# Altium integrated library Altera MAX II.IntLib: 229 symbols (part 1 of 19)
Pins are listed as number, name and electrical type; pins without a type are passive.

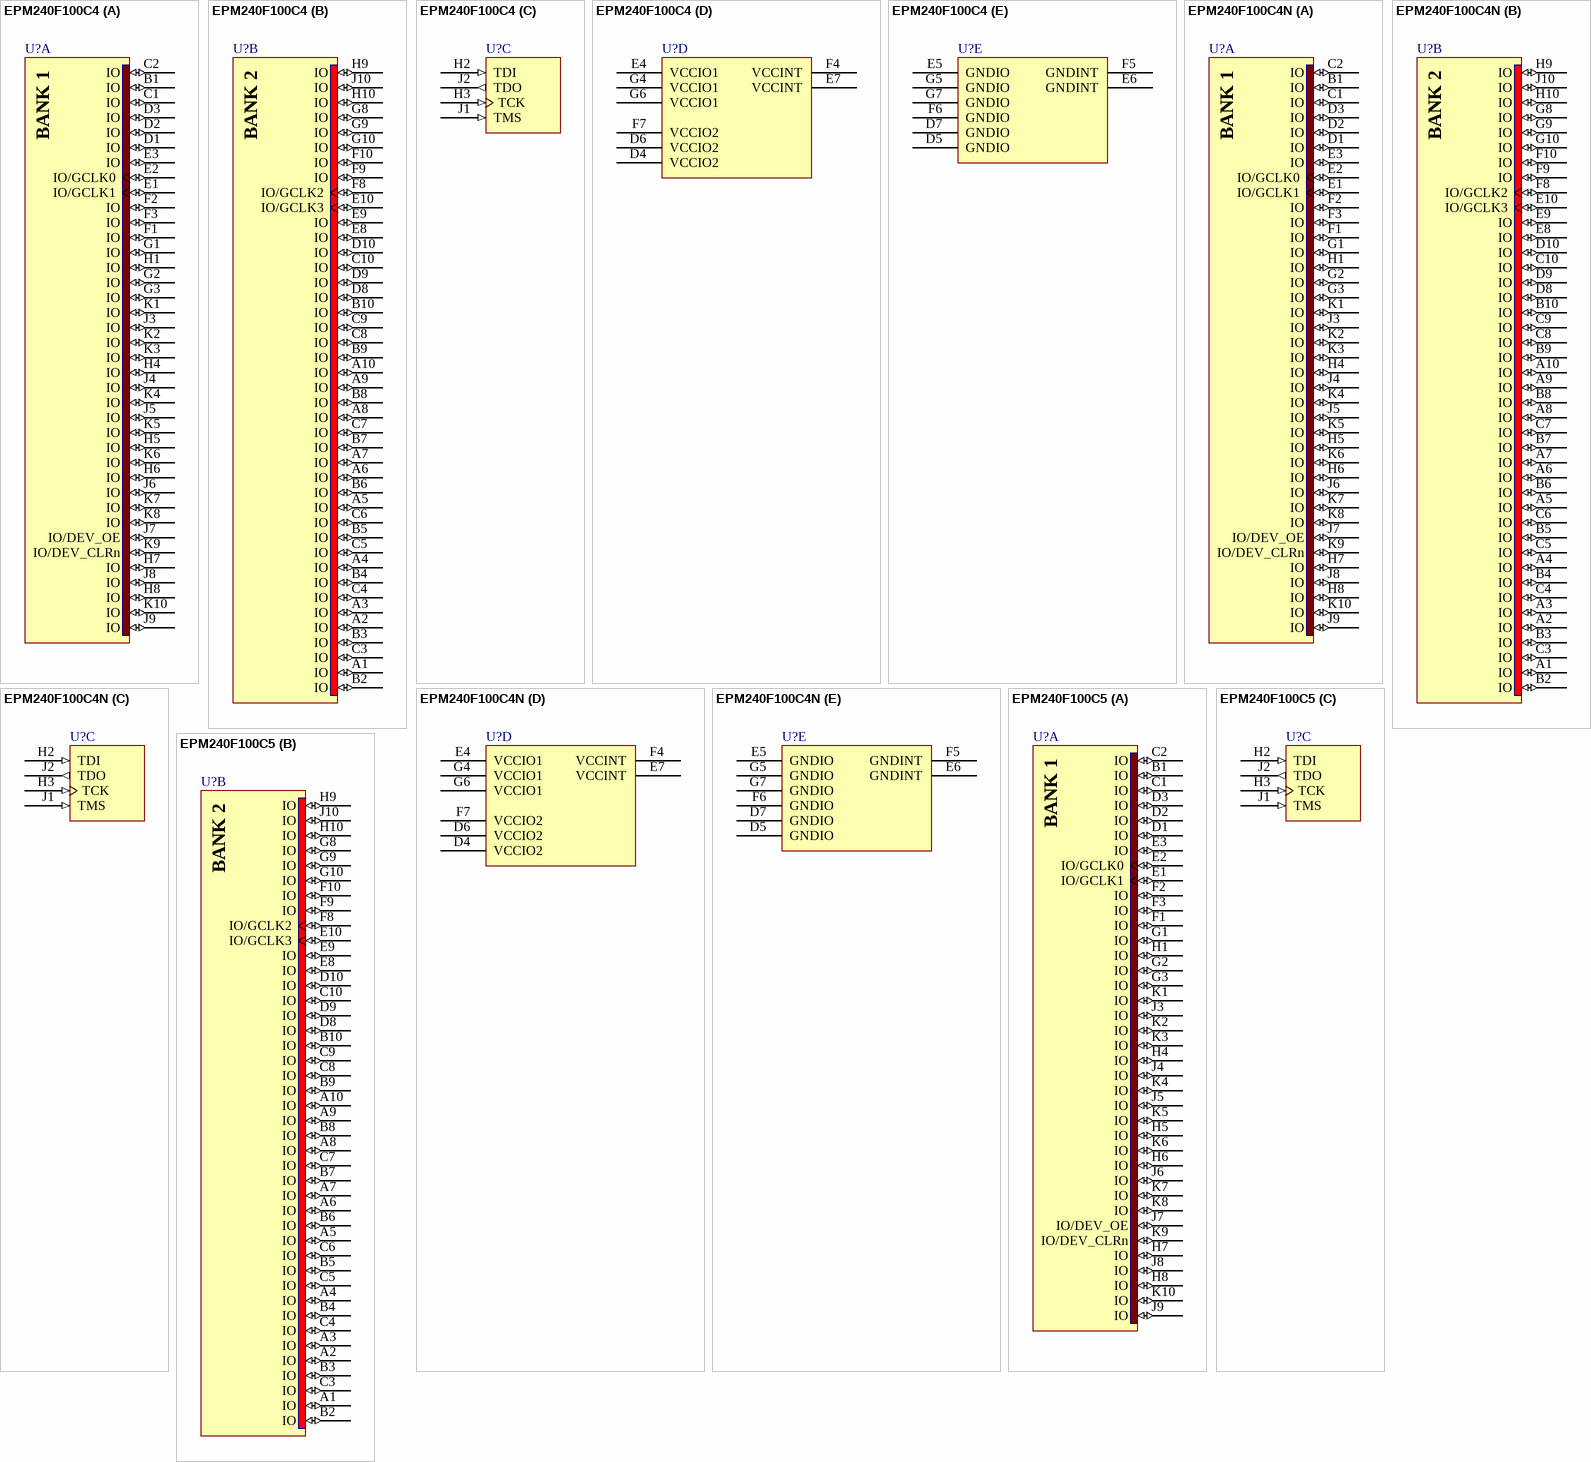
[diagram p0: symbols EPM240F100C4 to EPM240F100C5]

## EPM240F100C4
designator U?
MAX II 3.3/2.5V CPLD, 80 IOs, 240 Logic Elements, 100-Pin Fineline BGA, Commercial Temperature, Speed Grade 4; Note: Each set of VCCIO pins can be connected to 3.3V, 2.5V, 1.8V, or 1.5V.; Note: All VCCINT pins must be connected to either 3.3V or 2.5V (but not a combination of both).; Published: 31-Jul-2006; DatasheetVersion: ver1.8, Jul-2006; PackageVersion: ver15.1, May-2008; PackageReference: FBGA100_2; Publisher: Altium Limited; PackageDescription: 100-Ball FineLine Ball Grid Array (FBGA100) - Option 2 - Wire Bond; Code_JEDEC: MO-192-DAC-1; ComponentLink1Description: Manufacturer Link; ComponentLink1URL: http://www.altera.com/products/devices/cpld/max2/mx2-index.jsp; ComponentLink2Description: Handbook; ComponentLink2URL: http://www.altera.com/literature/hb/max2/max2_mii5v1.pdf; ComponentLink3Description: Packaging Specification; ComponentLink3URL: http://www.altera.com/literature/ds/dspkg.pdf
footprint FBGA100_2 (BGA, 100-Leads, Body 11x11mm, Pitch 1mm)
3D model EPM240-FBGA100 (100-Ball FineLine Ball Grid Array (FBGA100) - Option 2 - Wire Bond)
part A pins: B1 IO (io), C1 IO (io), C2 IO (io), D1 IO (io), D2 IO (io), D3 IO (io), E1 IO/GCLK1 (io), E2 IO/GCLK0 (io), E3 IO (io), F1 IO (io), F2 IO (io), F3 IO (io), G1 IO (io), G2 IO (io), G3 IO (io), H1 IO (io), H4 IO (io), H5 IO (io), H6 IO (io), H7 IO (io), H8 IO (io), J3 IO (io), J4 IO (io), J5 IO (io), J6 IO (io), J7 IO/DEV_OE (io), J8 IO (io), J9 IO (io), K1 IO (io), K2 IO (io), K3 IO (io), K4 IO (io), K5 IO (io), K6 IO (io), K7 IO (io), K8 IO (io), K9 IO/DEV_CLRn (io), K10 IO (io)
part B pins: A1 IO (io), A2 IO (io), A3 IO (io), A4 IO (io), A5 IO (io), A6 IO (io), A7 IO (io), A8 IO (io), A9 IO (io), A10 IO (io), B2 IO (io), B3 IO (io), B4 IO (io), B5 IO (io), B6 IO (io), B7 IO (io), B8 IO (io), B9 IO (io), B10 IO (io), C3 IO (io), C4 IO (io), C5 IO (io), C6 IO (io), C7 IO (io), C8 IO (io), C9 IO (io), C10 IO (io), D8 IO (io), D9 IO (io), D10 IO (io), E8 IO (io), E9 IO (io), E10 IO/GCLK3 (io), F8 IO/GCLK2 (io), F9 IO (io), F10 IO (io), G8 IO (io), G9 IO (io), G10 IO (io), H9 IO (io), H10 IO (io), J10 IO (io)
part C pins: H2 TDI (in), H3 TCK (in), J1 TMS (in), J2 TDO (out)
part D pins: D4 VCCIO2 (power), D6 VCCIO2 (power), E4 VCCIO1 (power), E7 VCCINT (power), F4 VCCINT (power), F7 VCCIO2 (power), G4 VCCIO1 (power), G6 VCCIO1 (power)
part E pins: D5 GNDIO (power), D7 GNDIO (power), E5 GNDIO (power), E6 GNDINT (power), F5 GNDINT (power), F6 GNDIO (power), G5 GNDIO (power), G7 GNDIO (power)
part A text: BANK 1
part B text: BANK 2

## EPM240F100C4N
designator U?
MAX II 3.3/2.5V CPLD, 80 IOs, 240 Logic Elements, 100-Pin Fineline BGA, Commercial Temperature, Speed Grade 4, Pb-Free; Note: Each set of VCCIO pins can be connected to 3.3V, 2.5V, 1.8V, or 1.5V.; Note: All VCCINT pins must be connected to either 3.3V or 2.5V (but not a combination of both).; Published: 31-Jul-2006; DatasheetVersion: ver1.8, Jul-2006; PackageVersion: ver15.1, May-2008; PackageReference: FBGA100_2; Publisher: Altium Limited; PackageDescription: 100-Ball FineLine Ball Grid Array (FBGA100) - Option 2 - Wire Bond; Supplier 1: Digi-Key; Supplier Part Number 1: 544-1710-ND; Code_JEDEC: MO-192-DAC-1; ComponentLink1Description: Manufacturer Link; ComponentLink1URL: http://www.altera.com/products/devices/cpld/max2/mx2-index.jsp; ComponentLink2Description: Handbook; ComponentLink2URL: http://www.altera.com/literature/hb/max2/max2_mii5v1.pdf; ComponentLink3Description: Packaging Specification; ComponentLink3URL: http://www.altera.com/literature/ds/dspkg.pdf
footprint FBGA100_2 (BGA, 100-Leads, Body 11x11mm, Pitch 1mm)
3D model EPM240-FBGA100 (100-Ball FineLine Ball Grid Array (FBGA100) - Option 2 - Wire Bond)
part A pins: B1 IO (io), C1 IO (io), C2 IO (io), D1 IO (io), D2 IO (io), D3 IO (io), E1 IO/GCLK1 (io), E2 IO/GCLK0 (io), E3 IO (io), F1 IO (io), F2 IO (io), F3 IO (io), G1 IO (io), G2 IO (io), G3 IO (io), H1 IO (io), H4 IO (io), H5 IO (io), H6 IO (io), H7 IO (io), H8 IO (io), J3 IO (io), J4 IO (io), J5 IO (io), J6 IO (io), J7 IO/DEV_OE (io), J8 IO (io), J9 IO (io), K1 IO (io), K2 IO (io), K3 IO (io), K4 IO (io), K5 IO (io), K6 IO (io), K7 IO (io), K8 IO (io), K9 IO/DEV_CLRn (io), K10 IO (io)
part B pins: A1 IO (io), A2 IO (io), A3 IO (io), A4 IO (io), A5 IO (io), A6 IO (io), A7 IO (io), A8 IO (io), A9 IO (io), A10 IO (io), B2 IO (io), B3 IO (io), B4 IO (io), B5 IO (io), B6 IO (io), B7 IO (io), B8 IO (io), B9 IO (io), B10 IO (io), C3 IO (io), C4 IO (io), C5 IO (io), C6 IO (io), C7 IO (io), C8 IO (io), C9 IO (io), C10 IO (io), D8 IO (io), D9 IO (io), D10 IO (io), E8 IO (io), E9 IO (io), E10 IO/GCLK3 (io), F8 IO/GCLK2 (io), F9 IO (io), F10 IO (io), G8 IO (io), G9 IO (io), G10 IO (io), H9 IO (io), H10 IO (io), J10 IO (io)
part C pins: H2 TDI (in), H3 TCK (in), J1 TMS (in), J2 TDO (out)
part D pins: D4 VCCIO2 (power), D6 VCCIO2 (power), E4 VCCIO1 (power), E7 VCCINT (power), F4 VCCINT (power), F7 VCCIO2 (power), G4 VCCIO1 (power), G6 VCCIO1 (power)
part E pins: D5 GNDIO (power), D7 GNDIO (power), E5 GNDIO (power), E6 GNDINT (power), F5 GNDINT (power), F6 GNDIO (power), G5 GNDIO (power), G7 GNDIO (power)
part A text: BANK 1
part B text: BANK 2

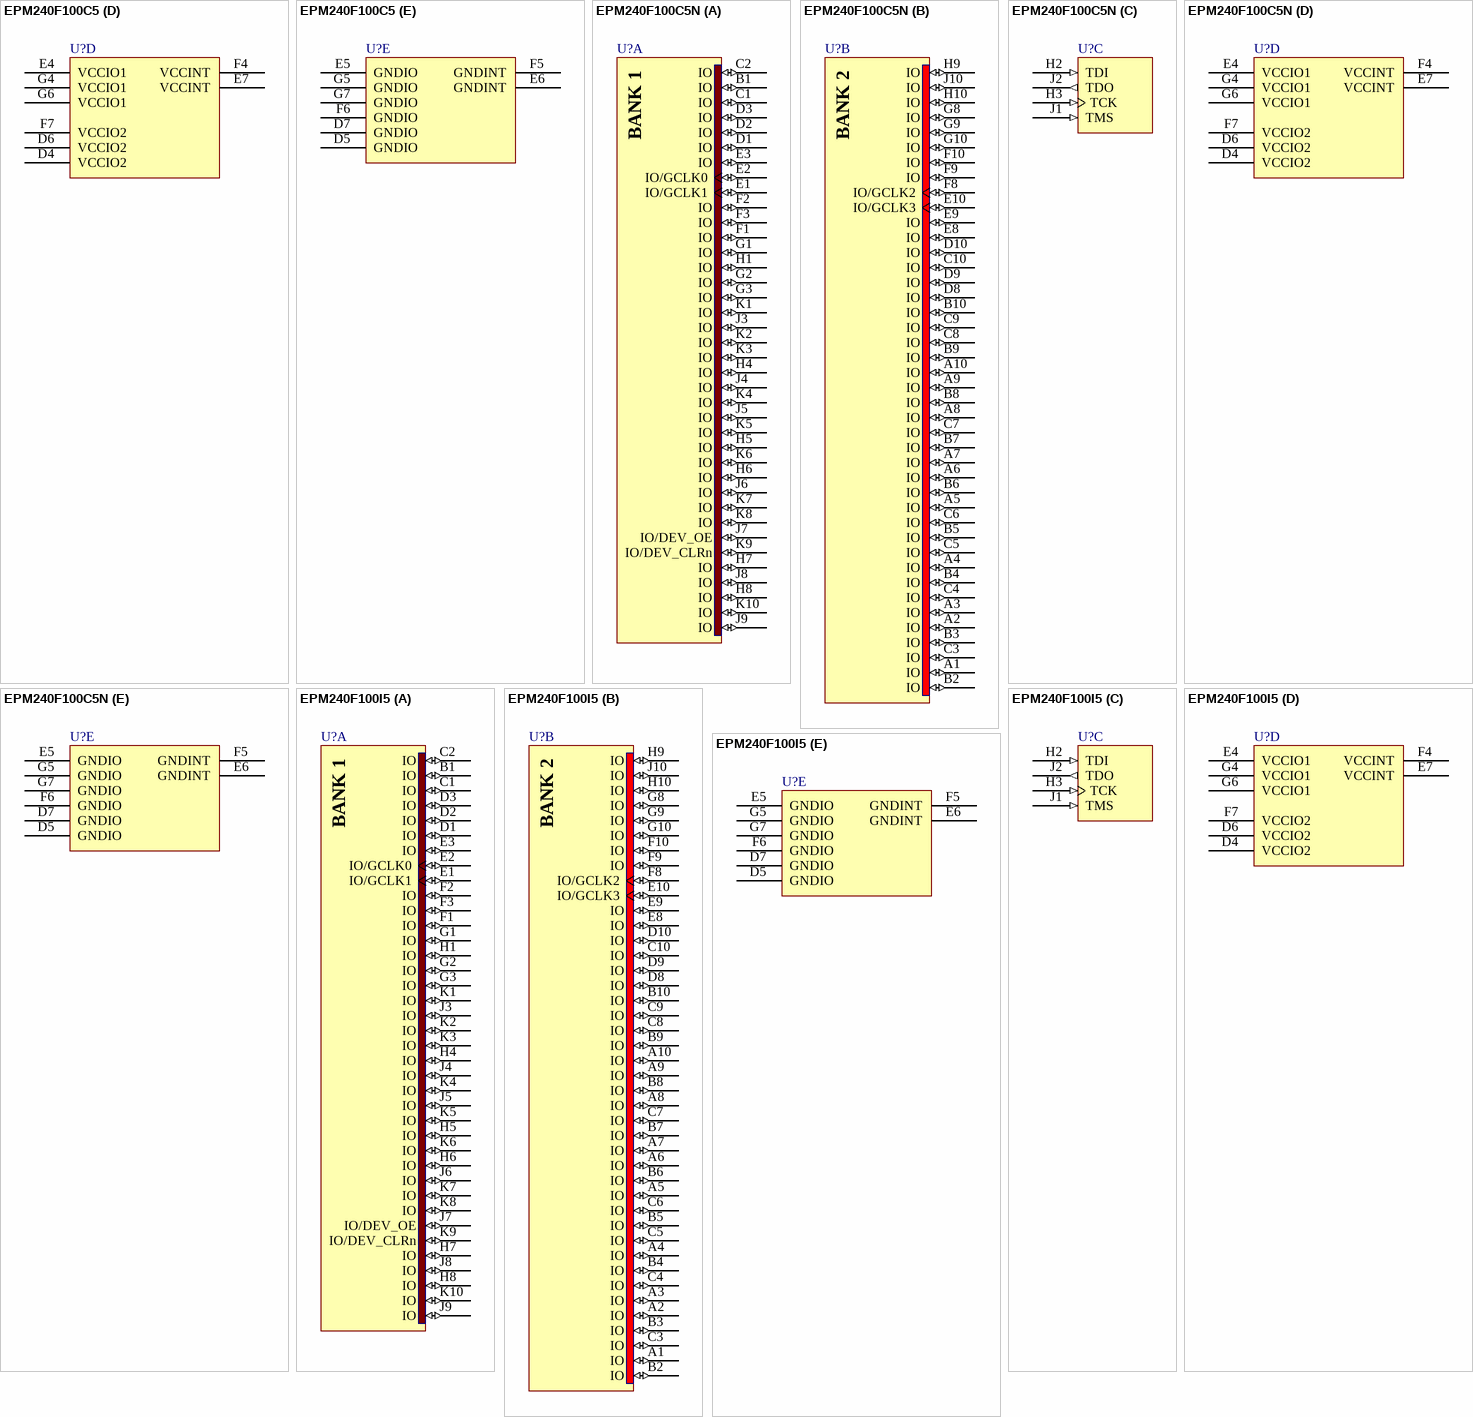
[diagram p1: symbols EPM240F100C5 to EPM240F100I5]

## EPM240F100C5
designator U?
MAX II 3.3/2.5V CPLD, 80 IOs, 240 Logic Elements, 100-Pin Fineline BGA, Commercial Temperature, Speed Grade 5; Note: Each set of VCCIO pins can be connected to 3.3V, 2.5V, 1.8V, or 1.5V.; Note: All VCCINT pins must be connected to either 3.3V or 2.5V (but not a combination of both).; Published: 31-Jul-2006; DatasheetVersion: ver1.8, Jul-2006; PackageVersion: ver15.1, May-2008; PackageReference: FBGA100_2; Publisher: Altium Limited; PackageDescription: 100-Ball FineLine Ball Grid Array (FBGA100) - Option 2 - Wire Bond; Code_JEDEC: MO-192-DAC-1; ComponentLink1Description: Manufacturer Link; ComponentLink1URL: http://www.altera.com/products/devices/cpld/max2/mx2-index.jsp; ComponentLink2Description: Handbook; ComponentLink2URL: http://www.altera.com/literature/hb/max2/max2_mii5v1.pdf; ComponentLink3Description: Packaging Specification; ComponentLink3URL: http://www.altera.com/literature/ds/dspkg.pdf
footprint FBGA100_2 (BGA, 100-Leads, Body 11x11mm, Pitch 1mm)
3D model EPM240-FBGA100 (100-Ball FineLine Ball Grid Array (FBGA100) - Option 2 - Wire Bond)
part A pins: B1 IO (io), C1 IO (io), C2 IO (io), D1 IO (io), D2 IO (io), D3 IO (io), E1 IO/GCLK1 (io), E2 IO/GCLK0 (io), E3 IO (io), F1 IO (io), F2 IO (io), F3 IO (io), G1 IO (io), G2 IO (io), G3 IO (io), H1 IO (io), H4 IO (io), H5 IO (io), H6 IO (io), H7 IO (io), H8 IO (io), J3 IO (io), J4 IO (io), J5 IO (io), J6 IO (io), J7 IO/DEV_OE (io), J8 IO (io), J9 IO (io), K1 IO (io), K2 IO (io), K3 IO (io), K4 IO (io), K5 IO (io), K6 IO (io), K7 IO (io), K8 IO (io), K9 IO/DEV_CLRn (io), K10 IO (io)
part B pins: A1 IO (io), A2 IO (io), A3 IO (io), A4 IO (io), A5 IO (io), A6 IO (io), A7 IO (io), A8 IO (io), A9 IO (io), A10 IO (io), B2 IO (io), B3 IO (io), B4 IO (io), B5 IO (io), B6 IO (io), B7 IO (io), B8 IO (io), B9 IO (io), B10 IO (io), C3 IO (io), C4 IO (io), C5 IO (io), C6 IO (io), C7 IO (io), C8 IO (io), C9 IO (io), C10 IO (io), D8 IO (io), D9 IO (io), D10 IO (io), E8 IO (io), E9 IO (io), E10 IO/GCLK3 (io), F8 IO/GCLK2 (io), F9 IO (io), F10 IO (io), G8 IO (io), G9 IO (io), G10 IO (io), H9 IO (io), H10 IO (io), J10 IO (io)
part C pins: H2 TDI (in), H3 TCK (in), J1 TMS (in), J2 TDO (out)
part D pins: D4 VCCIO2 (power), D6 VCCIO2 (power), E4 VCCIO1 (power), E7 VCCINT (power), F4 VCCINT (power), F7 VCCIO2 (power), G4 VCCIO1 (power), G6 VCCIO1 (power)
part E pins: D5 GNDIO (power), D7 GNDIO (power), E5 GNDIO (power), E6 GNDINT (power), F5 GNDINT (power), F6 GNDIO (power), G5 GNDIO (power), G7 GNDIO (power)
part A text: BANK 1
part B text: BANK 2

## EPM240F100C5N
designator U?
MAX II 3.3/2.5V CPLD, 80 IOs, 240 Logic Elements, 100-Pin Fineline BGA, Commercial Temperature, Speed Grade 5, Pb-Free; Note: Each set of VCCIO pins can be connected to 3.3V, 2.5V, 1.8V, or 1.5V.; Note: All VCCINT pins must be connected to either 3.3V or 2.5V (but not a combination of both).; Published: 31-Jul-2006; DatasheetVersion: ver1.8, Jul-2006; PackageVersion: ver15.1, May-2008; PackageReference: FBGA100_2; Publisher: Altium Limited; PackageDescription: 100-Ball FineLine Ball Grid Array (FBGA100) - Option 2 - Wire Bond; Supplier 1: Digi-Key; Supplier Part Number 1: 544-1709-ND; Supplier 2: Farnell; Supplier Part Number 2: 1635094; Code_JEDEC: MO-192-DAC-1; ComponentLink1Description: Manufacturer Link; ComponentLink1URL: http://www.altera.com/products/devices/cpld/max2/mx2-index.jsp; ComponentLink2Description: Handbook; ComponentLink2URL: http://www.altera.com/literature/hb/max2/max2_mii5v1.pdf; ComponentLink3Description: Packaging Specification; ComponentLink3URL: http://www.altera.com/literature/ds/dspkg.pdf
footprint FBGA100_2 (BGA, 100-Leads, Body 11x11mm, Pitch 1mm)
3D model EPM240-FBGA100 (100-Ball FineLine Ball Grid Array (FBGA100) - Option 2 - Wire Bond)
part A pins: B1 IO (io), C1 IO (io), C2 IO (io), D1 IO (io), D2 IO (io), D3 IO (io), E1 IO/GCLK1 (io), E2 IO/GCLK0 (io), E3 IO (io), F1 IO (io), F2 IO (io), F3 IO (io), G1 IO (io), G2 IO (io), G3 IO (io), H1 IO (io), H4 IO (io), H5 IO (io), H6 IO (io), H7 IO (io), H8 IO (io), J3 IO (io), J4 IO (io), J5 IO (io), J6 IO (io), J7 IO/DEV_OE (io), J8 IO (io), J9 IO (io), K1 IO (io), K2 IO (io), K3 IO (io), K4 IO (io), K5 IO (io), K6 IO (io), K7 IO (io), K8 IO (io), K9 IO/DEV_CLRn (io), K10 IO (io)
part B pins: A1 IO (io), A2 IO (io), A3 IO (io), A4 IO (io), A5 IO (io), A6 IO (io), A7 IO (io), A8 IO (io), A9 IO (io), A10 IO (io), B2 IO (io), B3 IO (io), B4 IO (io), B5 IO (io), B6 IO (io), B7 IO (io), B8 IO (io), B9 IO (io), B10 IO (io), C3 IO (io), C4 IO (io), C5 IO (io), C6 IO (io), C7 IO (io), C8 IO (io), C9 IO (io), C10 IO (io), D8 IO (io), D9 IO (io), D10 IO (io), E8 IO (io), E9 IO (io), E10 IO/GCLK3 (io), F8 IO/GCLK2 (io), F9 IO (io), F10 IO (io), G8 IO (io), G9 IO (io), G10 IO (io), H9 IO (io), H10 IO (io), J10 IO (io)
part C pins: H2 TDI (in), H3 TCK (in), J1 TMS (in), J2 TDO (out)
part D pins: D4 VCCIO2 (power), D6 VCCIO2 (power), E4 VCCIO1 (power), E7 VCCINT (power), F4 VCCINT (power), F7 VCCIO2 (power), G4 VCCIO1 (power), G6 VCCIO1 (power)
part E pins: D5 GNDIO (power), D7 GNDIO (power), E5 GNDIO (power), E6 GNDINT (power), F5 GNDINT (power), F6 GNDIO (power), G5 GNDIO (power), G7 GNDIO (power)
part A text: BANK 1
part B text: BANK 2

## EPM240F100I5
designator U?
MAX II 3.3/2.5V CPLD, 80 IOs, 240 Logic Elements, 100-Pin Fineline BGA, Industrial Temperature, Speed Grade 5; Note: Each set of VCCIO pins can be connected to 3.3V, 2.5V, 1.8V, or 1.5V.; Note: All VCCINT pins must be connected to either 3.3V or 2.5V (but not a combination of both).; Published: 31-Jul-2006; DatasheetVersion: ver1.8, Jul-2006; PackageVersion: ver15.1, May-2008; PackageReference: FBGA100_2; Publisher: Altium Limited; PackageDescription: 100-Ball FineLine Ball Grid Array (FBGA100) - Option 2 - Wire Bond; Code_JEDEC: MO-192-DAC-1; ComponentLink1Description: Manufacturer Link; ComponentLink1URL: http://www.altera.com/products/devices/cpld/max2/mx2-index.jsp; ComponentLink2Description: Handbook; ComponentLink2URL: http://www.altera.com/literature/hb/max2/max2_mii5v1.pdf; ComponentLink3Description: Packaging Specification; ComponentLink3URL: http://www.altera.com/literature/ds/dspkg.pdf
footprint FBGA100_2 (BGA, 100-Leads, Body 11x11mm, Pitch 1mm)
3D model EPM240-FBGA100 (100-Ball FineLine Ball Grid Array (FBGA100) - Option 2 - Wire Bond)
part A pins: B1 IO (io), C1 IO (io), C2 IO (io), D1 IO (io), D2 IO (io), D3 IO (io), E1 IO/GCLK1 (io), E2 IO/GCLK0 (io), E3 IO (io), F1 IO (io), F2 IO (io), F3 IO (io), G1 IO (io), G2 IO (io), G3 IO (io), H1 IO (io), H4 IO (io), H5 IO (io), H6 IO (io), H7 IO (io), H8 IO (io), J3 IO (io), J4 IO (io), J5 IO (io), J6 IO (io), J7 IO/DEV_OE (io), J8 IO (io), J9 IO (io), K1 IO (io), K2 IO (io), K3 IO (io), K4 IO (io), K5 IO (io), K6 IO (io), K7 IO (io), K8 IO (io), K9 IO/DEV_CLRn (io), K10 IO (io)
part B pins: A1 IO (io), A2 IO (io), A3 IO (io), A4 IO (io), A5 IO (io), A6 IO (io), A7 IO (io), A8 IO (io), A9 IO (io), A10 IO (io), B2 IO (io), B3 IO (io), B4 IO (io), B5 IO (io), B6 IO (io), B7 IO (io), B8 IO (io), B9 IO (io), B10 IO (io), C3 IO (io), C4 IO (io), C5 IO (io), C6 IO (io), C7 IO (io), C8 IO (io), C9 IO (io), C10 IO (io), D8 IO (io), D9 IO (io), D10 IO (io), E8 IO (io), E9 IO (io), E10 IO/GCLK3 (io), F8 IO/GCLK2 (io), F9 IO (io), F10 IO (io), G8 IO (io), G9 IO (io), G10 IO (io), H9 IO (io), H10 IO (io), J10 IO (io)
part C pins: H2 TDI (in), H3 TCK (in), J1 TMS (in), J2 TDO (out)
part D pins: D4 VCCIO2 (power), D6 VCCIO2 (power), E4 VCCIO1 (power), E7 VCCINT (power), F4 VCCINT (power), F7 VCCIO2 (power), G4 VCCIO1 (power), G6 VCCIO1 (power)
part E pins: D5 GNDIO (power), D7 GNDIO (power), E5 GNDIO (power), E6 GNDINT (power), F5 GNDINT (power), F6 GNDIO (power), G5 GNDIO (power), G7 GNDIO (power)
part A text: BANK 1
part B text: BANK 2

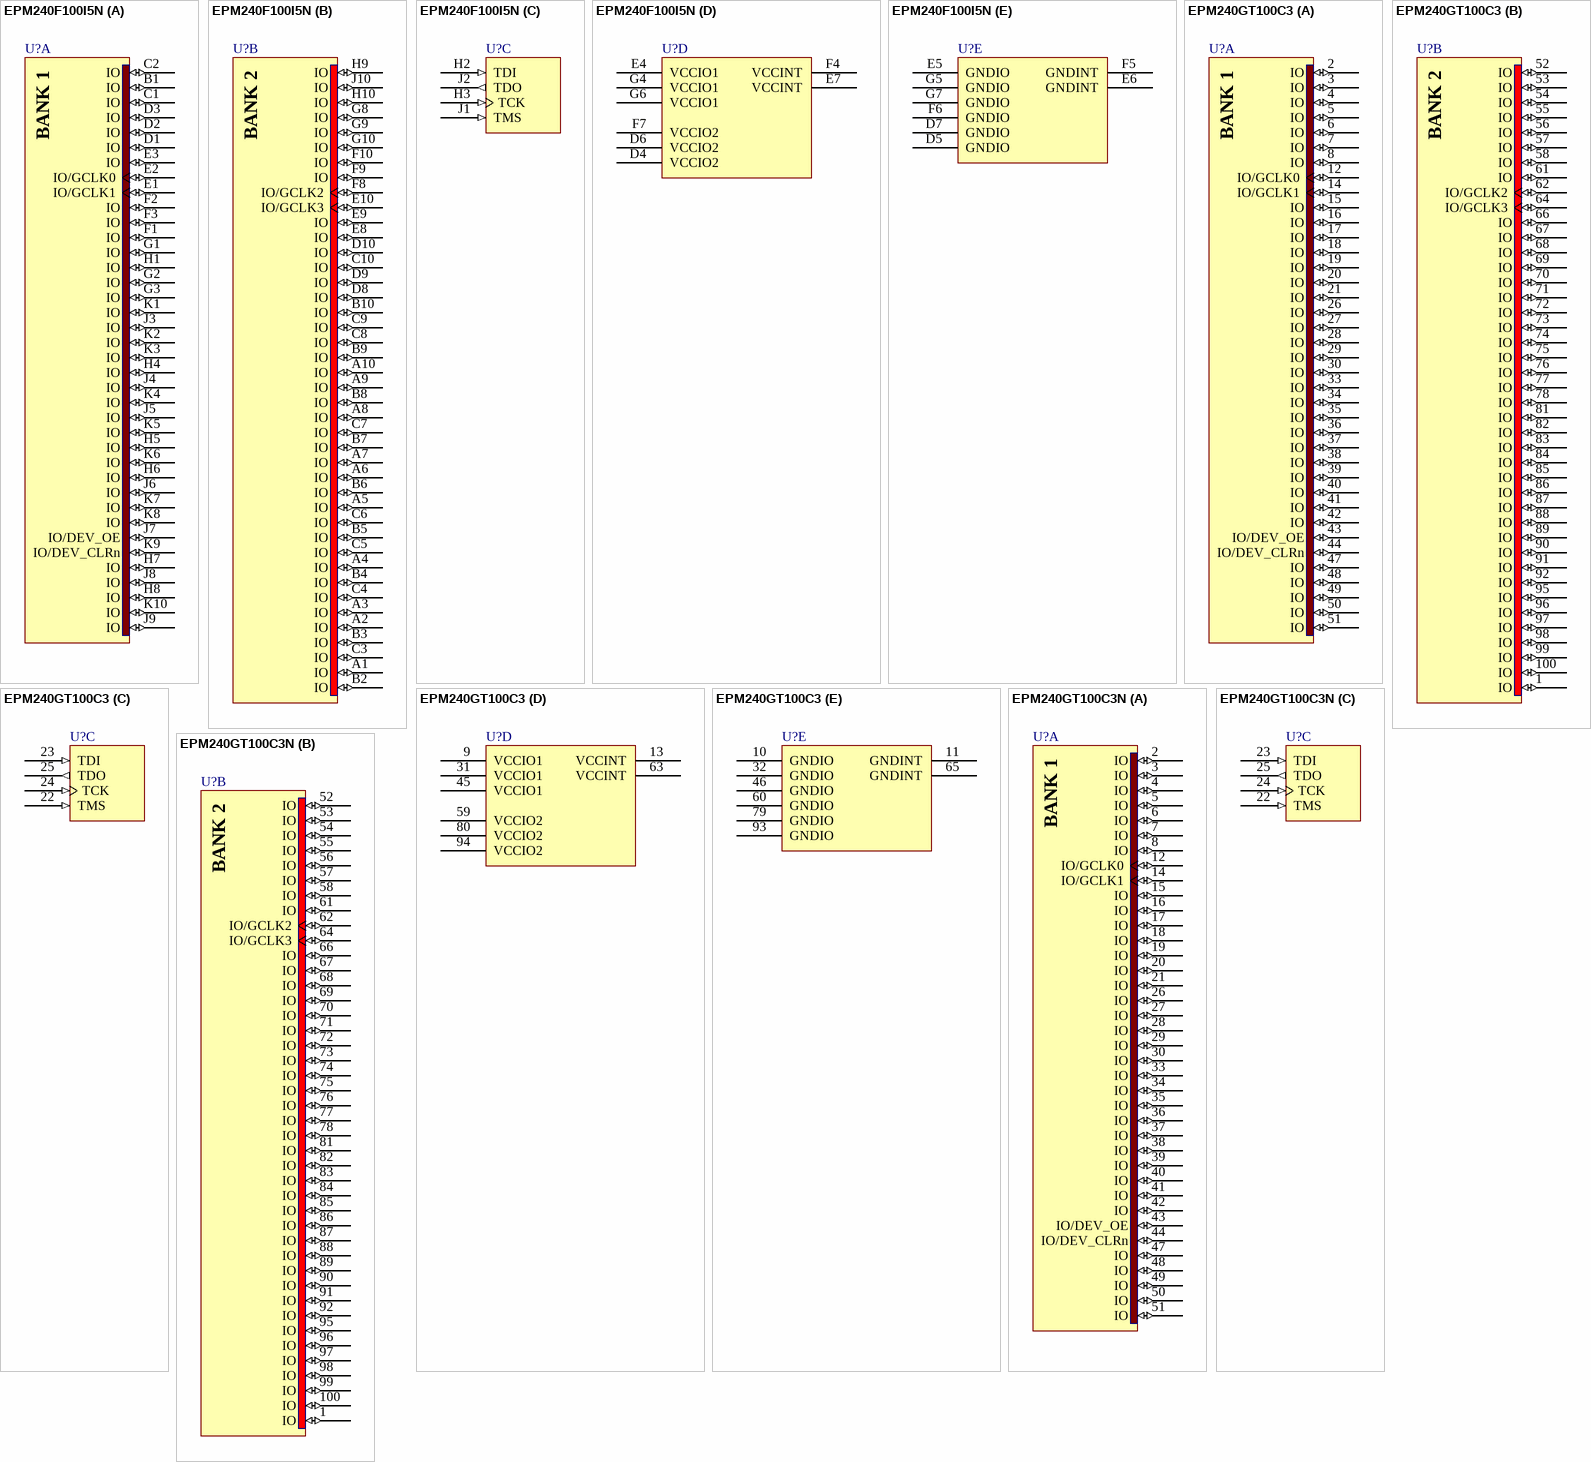
[diagram p2: symbols EPM240F100I5N to EPM240GT100C3N]

## EPM240F100I5N
designator U?
MAX II 3.3/2.5V CPLD, 80 IOs, 240 Logic Elements, 100-Pin Fineline BGA, Industrial Temperature, Speed Grade 5, Pb-Free; Note: Each set of VCCIO pins can be connected to 3.3V, 2.5V, 1.8V, or 1.5V.; Note: All VCCINT pins must be connected to either 3.3V or 2.5V (but not a combination of both).; Published: 31-Jul-2006; DatasheetVersion: ver1.8, Jul-2006; PackageVersion: ver15.1, May-2008; PackageReference: FBGA100_2; Publisher: Altium Limited; PackageDescription: 100-Ball FineLine Ball Grid Array (FBGA100) - Option 2 - Wire Bond; Supplier 1: Digi-Key; Supplier Part Number 1: 544-1711-ND; Code_JEDEC: MO-192-DAC-1; ComponentLink1Description: Manufacturer Link; ComponentLink1URL: http://www.altera.com/products/devices/cpld/max2/mx2-index.jsp; ComponentLink2Description: Handbook; ComponentLink2URL: http://www.altera.com/literature/hb/max2/max2_mii5v1.pdf; ComponentLink3Description: Packaging Specification; ComponentLink3URL: http://www.altera.com/literature/ds/dspkg.pdf
footprint FBGA100_2 (BGA, 100-Leads, Body 11x11mm, Pitch 1mm)
3D model EPM240-FBGA100 (100-Ball FineLine Ball Grid Array (FBGA100) - Option 2 - Wire Bond)
part A pins: B1 IO (io), C1 IO (io), C2 IO (io), D1 IO (io), D2 IO (io), D3 IO (io), E1 IO/GCLK1 (io), E2 IO/GCLK0 (io), E3 IO (io), F1 IO (io), F2 IO (io), F3 IO (io), G1 IO (io), G2 IO (io), G3 IO (io), H1 IO (io), H4 IO (io), H5 IO (io), H6 IO (io), H7 IO (io), H8 IO (io), J3 IO (io), J4 IO (io), J5 IO (io), J6 IO (io), J7 IO/DEV_OE (io), J8 IO (io), J9 IO (io), K1 IO (io), K2 IO (io), K3 IO (io), K4 IO (io), K5 IO (io), K6 IO (io), K7 IO (io), K8 IO (io), K9 IO/DEV_CLRn (io), K10 IO (io)
part B pins: A1 IO (io), A2 IO (io), A3 IO (io), A4 IO (io), A5 IO (io), A6 IO (io), A7 IO (io), A8 IO (io), A9 IO (io), A10 IO (io), B2 IO (io), B3 IO (io), B4 IO (io), B5 IO (io), B6 IO (io), B7 IO (io), B8 IO (io), B9 IO (io), B10 IO (io), C3 IO (io), C4 IO (io), C5 IO (io), C6 IO (io), C7 IO (io), C8 IO (io), C9 IO (io), C10 IO (io), D8 IO (io), D9 IO (io), D10 IO (io), E8 IO (io), E9 IO (io), E10 IO/GCLK3 (io), F8 IO/GCLK2 (io), F9 IO (io), F10 IO (io), G8 IO (io), G9 IO (io), G10 IO (io), H9 IO (io), H10 IO (io), J10 IO (io)
part C pins: H2 TDI (in), H3 TCK (in), J1 TMS (in), J2 TDO (out)
part D pins: D4 VCCIO2 (power), D6 VCCIO2 (power), E4 VCCIO1 (power), E7 VCCINT (power), F4 VCCINT (power), F7 VCCIO2 (power), G4 VCCIO1 (power), G6 VCCIO1 (power)
part E pins: D5 GNDIO (power), D7 GNDIO (power), E5 GNDIO (power), E6 GNDINT (power), F5 GNDINT (power), F6 GNDIO (power), G5 GNDIO (power), G7 GNDIO (power)
part A text: BANK 1
part B text: BANK 2

## EPM240GT100C3
designator U?
MAX II 1.8V CPLD, 80 IOs, 240 Logic Elements, 100-Pin Plastic TQFP, Commercial Temperature, Speed Grade 3; Note: Each set of VCCIO pins can be connected to 3.3V, 2.5V, 1.8V, or 1.5V.; Note: All VCCINT pins must be connected to 1.8V.; Published: 15-Jul-2004; LatestRevisionDate: 13-Apr-2006; LatestRevisionNote: IPC-7351 Footprint Added.; DatasheetVersion: ver1.8, Jul-2006; PackageVersion: ver15.1, May-2008; PackageReference: TQFP100; Publisher: Altium Limited; PackageDescription: 100-Pin Plastic Thin Quad Flat Pack (TQFP100) - Wire Bond; Supplier 1: Digi-Key; Supplier Part Number 1: 544-1147-ND; Code_JEDEC: MS-026-AED; ComponentLink1Description: Manufacturer Link; ComponentLink1URL: http://www.altera.com/products/devices/cpld/max2/mx2-index.jsp; ComponentLink2Description: Handbook; ComponentLink2URL: http://www.altera.com/literature/hb/max2/max2_mii5v1.pdf; ComponentLink3Description: Packaging Specification; ComponentLink3URL: http://www.altera.com/literature/ds/dspkg.pdf
footprint TQFP100_N (Thin QFP, 100-Leads, Body 14x14mm, Pitch 0.5mm, IPC Medium Density)
footprint TQFP100_L (Thin QFP, 100-Leads, Body 14x14mm, Pitch 0.5mm, IPC High Density)
footprint TQFP100_M (Thin QFP, 100-Leads, Body 14x14mm, Pitch 0.5mm, IPC Low Density)
3D model EPM240-TQFP100 (100-Pin Plastic Thin Quad Flat Pack (TQFP100) - Wire Bond)
part A pins: 2 IO (io), 3 IO (io), 4 IO (io), 5 IO (io), 6 IO (io), 7 IO (io), 8 IO (io), 12 IO/GCLK0 (io), 14 IO/GCLK1 (io), 15 IO (io), 16 IO (io), 17 IO (io), 18 IO (io), 19 IO (io), 20 IO (io), 21 IO (io), 26 IO (io), 27 IO (io), 28 IO (io), 29 IO (io), 30 IO (io), 33 IO (io), 34 IO (io), 35 IO (io), 36 IO (io), 37 IO (io), 38 IO (io), 39 IO (io), 40 IO (io), 41 IO (io), 42 IO (io), 43 IO/DEV_OE (io), 44 IO/DEV_CLRn (io), 47 IO (io), 48 IO (io), 49 IO (io), 50 IO (io), 51 IO (io)
part B pins: 1 IO (io), 52 IO (io), 53 IO (io), 54 IO (io), 55 IO (io), 56 IO (io), 57 IO (io), 58 IO (io), 61 IO (io), 62 IO/GCLK2 (io), 64 IO/GCLK3 (io), 66 IO (io), 67 IO (io), 68 IO (io), 69 IO (io), 70 IO (io), 71 IO (io), 72 IO (io), 73 IO (io), 74 IO (io), 75 IO (io), 76 IO (io), 77 IO (io), 78 IO (io), 81 IO (io), 82 IO (io), 83 IO (io), 84 IO (io), 85 IO (io), 86 IO (io), 87 IO (io), 88 IO (io), 89 IO (io), 90 IO (io), 91 IO (io), 92 IO (io), 95 IO (io), 96 IO (io), 97 IO (io), 98 IO (io), 99 IO (io), 100 IO (io)
part C pins: 22 TMS (in), 23 TDI (in), 24 TCK (in), 25 TDO (out)
part D pins: 9 VCCIO1 (power), 13 VCCINT (power), 31 VCCIO1 (power), 45 VCCIO1 (power), 59 VCCIO2 (power), 63 VCCINT (power), 80 VCCIO2 (power), 94 VCCIO2 (power)
part E pins: 10 GNDIO (power), 11 GNDINT (power), 32 GNDIO (power), 46 GNDIO (power), 60 GNDIO (power), 65 GNDINT (power), 79 GNDIO (power), 93 GNDIO (power)
part A text: BANK 1
part B text: BANK 2

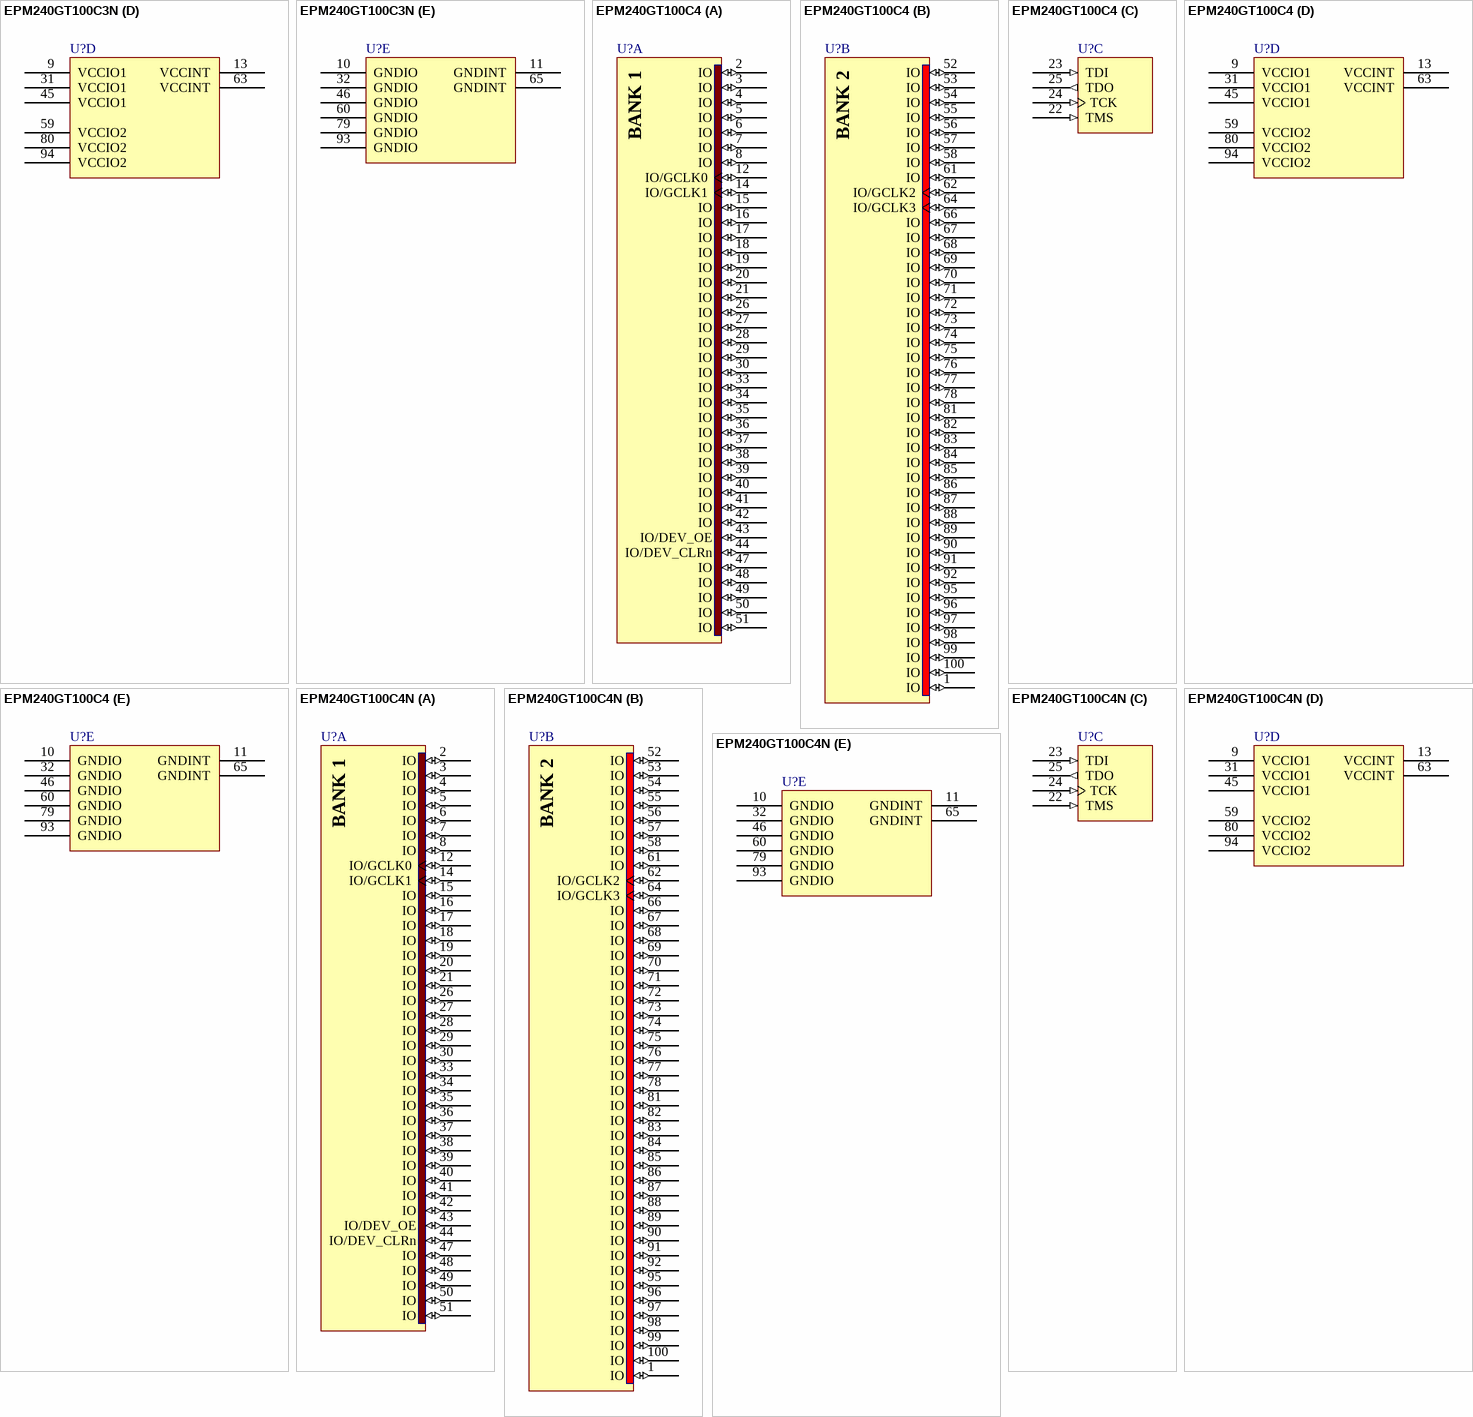
[diagram p3: symbols EPM240GT100C3N to EPM240GT100C4N]

## EPM240GT100C3N
designator U?
MAX II 1.8V CPLD, 80 IOs, 240 Logic Elements, 100-Pin Plastic TQFP, Commercial Temperature, Speed Grade 3, Pb-Free; Note: Each set of VCCIO pins can be connected to 3.3V, 2.5V, 1.8V, or 1.5V.; Note: All VCCINT pins must be connected to 1.8V.; Published: 4-Mar-2005; LatestRevisionDate: 13-Apr-2006; LatestRevisionNote: IPC-7351 Footprint Added.; DatasheetVersion: ver1.8, Jul-2006; PackageVersion: ver15.1, May-2008; PackageReference: TQFP100; Publisher: Altium Limited; PackageDescription: 100-Pin Plastic Thin Quad Flat Pack (TQFP100) - Wire Bond; Supplier 1: Digi-Key; Supplier Part Number 1: 544-1395-ND; Supplier 2: Farnell; Supplier Part Number 2: 1549465; Code_JEDEC: MS-026-AED; ComponentLink1Description: Manufacturer Link; ComponentLink1URL: http://www.altera.com/products/devices/cpld/max2/mx2-index.jsp; ComponentLink2Description: Handbook; ComponentLink2URL: http://www.altera.com/literature/hb/max2/max2_mii5v1.pdf; ComponentLink3Description: Packaging Specification; ComponentLink3URL: http://www.altera.com/literature/ds/dspkg.pdf
footprint TQFP100_N (Thin QFP, 100-Leads, Body 14x14mm, Pitch 0.5mm, IPC Medium Density)
footprint TQFP100_L (Thin QFP, 100-Leads, Body 14x14mm, Pitch 0.5mm, IPC High Density)
footprint TQFP100_M (Thin QFP, 100-Leads, Body 14x14mm, Pitch 0.5mm, IPC Low Density)
3D model EPM240-TQFP100 (100-Pin Plastic Thin Quad Flat Pack (TQFP100) - Wire Bond)
part A pins: 2 IO (io), 3 IO (io), 4 IO (io), 5 IO (io), 6 IO (io), 7 IO (io), 8 IO (io), 12 IO/GCLK0 (io), 14 IO/GCLK1 (io), 15 IO (io), 16 IO (io), 17 IO (io), 18 IO (io), 19 IO (io), 20 IO (io), 21 IO (io), 26 IO (io), 27 IO (io), 28 IO (io), 29 IO (io), 30 IO (io), 33 IO (io), 34 IO (io), 35 IO (io), 36 IO (io), 37 IO (io), 38 IO (io), 39 IO (io), 40 IO (io), 41 IO (io), 42 IO (io), 43 IO/DEV_OE (io), 44 IO/DEV_CLRn (io), 47 IO (io), 48 IO (io), 49 IO (io), 50 IO (io), 51 IO (io)
part B pins: 1 IO (io), 52 IO (io), 53 IO (io), 54 IO (io), 55 IO (io), 56 IO (io), 57 IO (io), 58 IO (io), 61 IO (io), 62 IO/GCLK2 (io), 64 IO/GCLK3 (io), 66 IO (io), 67 IO (io), 68 IO (io), 69 IO (io), 70 IO (io), 71 IO (io), 72 IO (io), 73 IO (io), 74 IO (io), 75 IO (io), 76 IO (io), 77 IO (io), 78 IO (io), 81 IO (io), 82 IO (io), 83 IO (io), 84 IO (io), 85 IO (io), 86 IO (io), 87 IO (io), 88 IO (io), 89 IO (io), 90 IO (io), 91 IO (io), 92 IO (io), 95 IO (io), 96 IO (io), 97 IO (io), 98 IO (io), 99 IO (io), 100 IO (io)
part C pins: 22 TMS (in), 23 TDI (in), 24 TCK (in), 25 TDO (out)
part D pins: 9 VCCIO1 (power), 13 VCCINT (power), 31 VCCIO1 (power), 45 VCCIO1 (power), 59 VCCIO2 (power), 63 VCCINT (power), 80 VCCIO2 (power), 94 VCCIO2 (power)
part E pins: 10 GNDIO (power), 11 GNDINT (power), 32 GNDIO (power), 46 GNDIO (power), 60 GNDIO (power), 65 GNDINT (power), 79 GNDIO (power), 93 GNDIO (power)
part A text: BANK 1
part B text: BANK 2

## EPM240GT100C4
designator U?
MAX II 1.8V CPLD, 80 IOs, 240 Logic Elements, 100-Pin Plastic TQFP, Commercial Temperature, Speed Grade 4; Note: Each set of VCCIO pins can be connected to 3.3V, 2.5V, 1.8V, or 1.5V.; Note: All VCCINT pins must be connected to 1.8V.; Published: 15-Jul-2004; LatestRevisionDate: 13-Apr-2006; LatestRevisionNote: IPC-7351 Footprint Added.; DatasheetVersion: ver1.8, Jul-2006; PackageVersion: ver15.1, May-2008; PackageReference: TQFP100; Publisher: Altium Limited; PackageDescription: 100-Pin Plastic Thin Quad Flat Pack (TQFP100) - Wire Bond; Supplier 1: Digi-Key; Supplier Part Number 1: 544-1148-ND; Code_JEDEC: MS-026-AED; ComponentLink1Description: Manufacturer Link; ComponentLink1URL: http://www.altera.com/products/devices/cpld/max2/mx2-index.jsp; ComponentLink2Description: Handbook; ComponentLink2URL: http://www.altera.com/literature/hb/max2/max2_mii5v1.pdf; ComponentLink3Description: Packaging Specification; ComponentLink3URL: http://www.altera.com/literature/ds/dspkg.pdf
footprint TQFP100_N (Thin QFP, 100-Leads, Body 14x14mm, Pitch 0.5mm, IPC Medium Density)
footprint TQFP100_L (Thin QFP, 100-Leads, Body 14x14mm, Pitch 0.5mm, IPC High Density)
footprint TQFP100_M (Thin QFP, 100-Leads, Body 14x14mm, Pitch 0.5mm, IPC Low Density)
3D model EPM240-TQFP100 (100-Pin Plastic Thin Quad Flat Pack (TQFP100) - Wire Bond)
part A pins: 2 IO (io), 3 IO (io), 4 IO (io), 5 IO (io), 6 IO (io), 7 IO (io), 8 IO (io), 12 IO/GCLK0 (io), 14 IO/GCLK1 (io), 15 IO (io), 16 IO (io), 17 IO (io), 18 IO (io), 19 IO (io), 20 IO (io), 21 IO (io), 26 IO (io), 27 IO (io), 28 IO (io), 29 IO (io), 30 IO (io), 33 IO (io), 34 IO (io), 35 IO (io), 36 IO (io), 37 IO (io), 38 IO (io), 39 IO (io), 40 IO (io), 41 IO (io), 42 IO (io), 43 IO/DEV_OE (io), 44 IO/DEV_CLRn (io), 47 IO (io), 48 IO (io), 49 IO (io), 50 IO (io), 51 IO (io)
part B pins: 1 IO (io), 52 IO (io), 53 IO (io), 54 IO (io), 55 IO (io), 56 IO (io), 57 IO (io), 58 IO (io), 61 IO (io), 62 IO/GCLK2 (io), 64 IO/GCLK3 (io), 66 IO (io), 67 IO (io), 68 IO (io), 69 IO (io), 70 IO (io), 71 IO (io), 72 IO (io), 73 IO (io), 74 IO (io), 75 IO (io), 76 IO (io), 77 IO (io), 78 IO (io), 81 IO (io), 82 IO (io), 83 IO (io), 84 IO (io), 85 IO (io), 86 IO (io), 87 IO (io), 88 IO (io), 89 IO (io), 90 IO (io), 91 IO (io), 92 IO (io), 95 IO (io), 96 IO (io), 97 IO (io), 98 IO (io), 99 IO (io), 100 IO (io)
part C pins: 22 TMS (in), 23 TDI (in), 24 TCK (in), 25 TDO (out)
part D pins: 9 VCCIO1 (power), 13 VCCINT (power), 31 VCCIO1 (power), 45 VCCIO1 (power), 59 VCCIO2 (power), 63 VCCINT (power), 80 VCCIO2 (power), 94 VCCIO2 (power)
part E pins: 10 GNDIO (power), 11 GNDINT (power), 32 GNDIO (power), 46 GNDIO (power), 60 GNDIO (power), 65 GNDINT (power), 79 GNDIO (power), 93 GNDIO (power)
part A text: BANK 1
part B text: BANK 2

## EPM240GT100C4N
designator U?
MAX II 1.8V CPLD, 80 IOs, 240 Logic Elements, 100-Pin Plastic TQFP, Commercial Temperature, Speed Grade 4, Pb-Free; Note: Each set of VCCIO pins can be connected to 3.3V, 2.5V, 1.8V, or 1.5V.; Note: All VCCINT pins must be connected to 1.8V.; Published: 4-Mar-2005; LatestRevisionDate: 13-Apr-2006; LatestRevisionNote: IPC-7351 Footprint Added.; DatasheetVersion: ver1.8, Jul-2006; PackageVersion: ver15.1, May-2008; PackageReference: TQFP100; Publisher: Altium Limited; PackageDescription: 100-Pin Plastic Thin Quad Flat Pack (TQFP100) - Wire Bond; Supplier 1: Digi-Key; Supplier Part Number 1: 544-1396-ND; Code_JEDEC: MS-026-AED; ComponentLink1Description: Manufacturer Link; ComponentLink1URL: http://www.altera.com/products/devices/cpld/max2/mx2-index.jsp; ComponentLink2Description: Handbook; ComponentLink2URL: http://www.altera.com/literature/hb/max2/max2_mii5v1.pdf; ComponentLink3Description: Packaging Specification; ComponentLink3URL: http://www.altera.com/literature/ds/dspkg.pdf
footprint TQFP100_N (Thin QFP, 100-Leads, Body 14x14mm, Pitch 0.5mm, IPC Medium Density)
footprint TQFP100_L (Thin QFP, 100-Leads, Body 14x14mm, Pitch 0.5mm, IPC High Density)
footprint TQFP100_M (Thin QFP, 100-Leads, Body 14x14mm, Pitch 0.5mm, IPC Low Density)
3D model EPM240-TQFP100 (100-Pin Plastic Thin Quad Flat Pack (TQFP100) - Wire Bond)
part A pins: 2 IO (io), 3 IO (io), 4 IO (io), 5 IO (io), 6 IO (io), 7 IO (io), 8 IO (io), 12 IO/GCLK0 (io), 14 IO/GCLK1 (io), 15 IO (io), 16 IO (io), 17 IO (io), 18 IO (io), 19 IO (io), 20 IO (io), 21 IO (io), 26 IO (io), 27 IO (io), 28 IO (io), 29 IO (io), 30 IO (io), 33 IO (io), 34 IO (io), 35 IO (io), 36 IO (io), 37 IO (io), 38 IO (io), 39 IO (io), 40 IO (io), 41 IO (io), 42 IO (io), 43 IO/DEV_OE (io), 44 IO/DEV_CLRn (io), 47 IO (io), 48 IO (io), 49 IO (io), 50 IO (io), 51 IO (io)
part B pins: 1 IO (io), 52 IO (io), 53 IO (io), 54 IO (io), 55 IO (io), 56 IO (io), 57 IO (io), 58 IO (io), 61 IO (io), 62 IO/GCLK2 (io), 64 IO/GCLK3 (io), 66 IO (io), 67 IO (io), 68 IO (io), 69 IO (io), 70 IO (io), 71 IO (io), 72 IO (io), 73 IO (io), 74 IO (io), 75 IO (io), 76 IO (io), 77 IO (io), 78 IO (io), 81 IO (io), 82 IO (io), 83 IO (io), 84 IO (io), 85 IO (io), 86 IO (io), 87 IO (io), 88 IO (io), 89 IO (io), 90 IO (io), 91 IO (io), 92 IO (io), 95 IO (io), 96 IO (io), 97 IO (io), 98 IO (io), 99 IO (io), 100 IO (io)
part C pins: 22 TMS (in), 23 TDI (in), 24 TCK (in), 25 TDO (out)
part D pins: 9 VCCIO1 (power), 13 VCCINT (power), 31 VCCIO1 (power), 45 VCCIO1 (power), 59 VCCIO2 (power), 63 VCCINT (power), 80 VCCIO2 (power), 94 VCCIO2 (power)
part E pins: 10 GNDIO (power), 11 GNDINT (power), 32 GNDIO (power), 46 GNDIO (power), 60 GNDIO (power), 65 GNDINT (power), 79 GNDIO (power), 93 GNDIO (power)
part A text: BANK 1
part B text: BANK 2

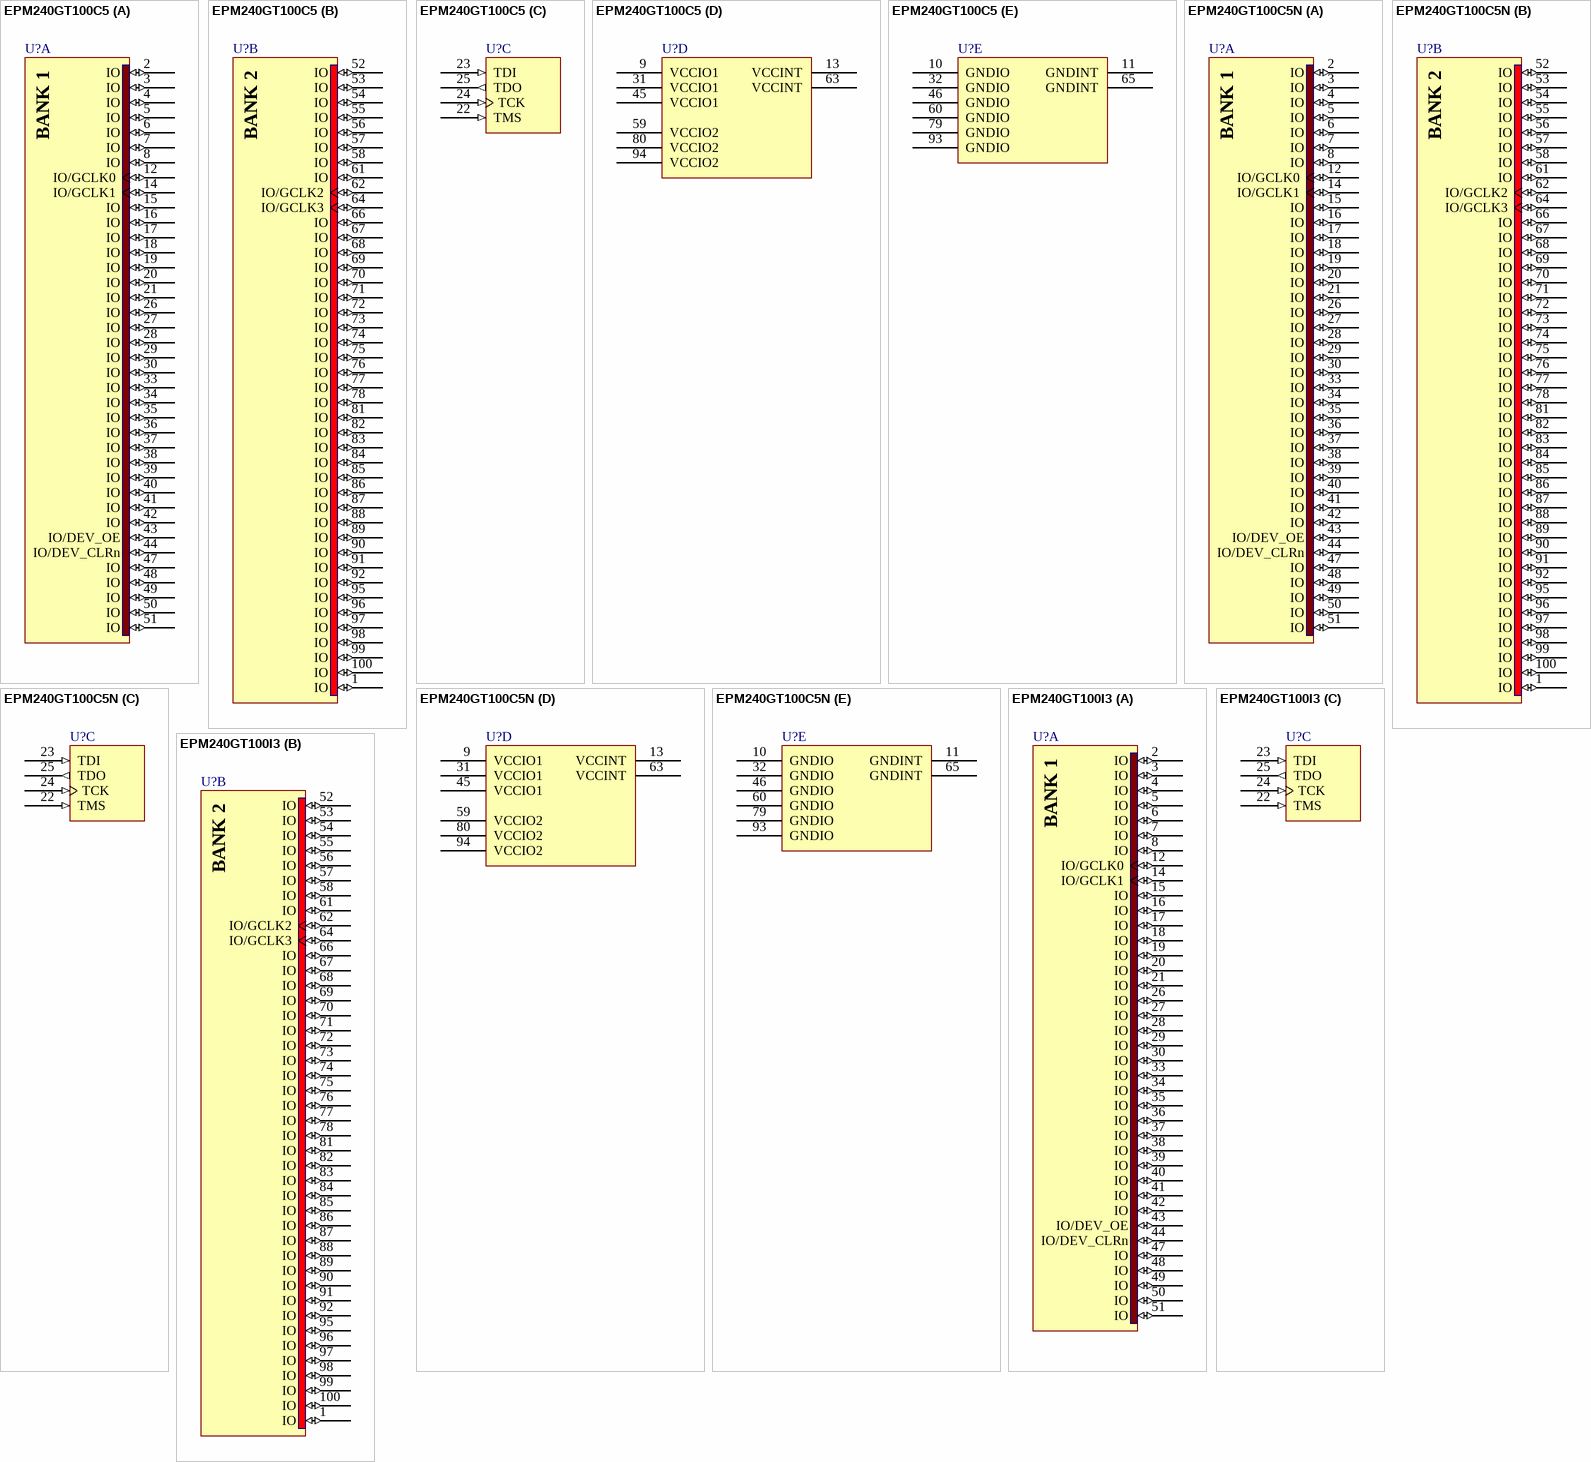
[diagram p4: symbols EPM240GT100C5 to EPM240GT100I3]

## EPM240GT100C5
designator U?
MAX II 1.8V CPLD, 80 IOs, 240 Logic Elements, 100-Pin Plastic TQFP, Commercial Temperature, Speed Grade 5; Note: Each set of VCCIO pins can be connected to 3.3V, 2.5V, 1.8V, or 1.5V.; Note: All VCCINT pins must be connected to 1.8V.; Published: 15-Jul-2004; LatestRevisionDate: 13-Apr-2006; LatestRevisionNote: IPC-7351 Footprint Added.; DatasheetVersion: ver1.8, Jul-2006; PackageVersion: ver15.1, May-2008; PackageReference: TQFP100; Publisher: Altium Limited; PackageDescription: 100-Pin Plastic Thin Quad Flat Pack (TQFP100) - Wire Bond; Supplier 1: Digi-Key; Supplier Part Number 1: 544-1149-ND; Code_JEDEC: MS-026-AED; ComponentLink1Description: Manufacturer Link; ComponentLink1URL: http://www.altera.com/products/devices/cpld/max2/mx2-index.jsp; ComponentLink2Description: Handbook; ComponentLink2URL: http://www.altera.com/literature/hb/max2/max2_mii5v1.pdf; ComponentLink3Description: Packaging Specification; ComponentLink3URL: http://www.altera.com/literature/ds/dspkg.pdf
footprint TQFP100_N (Thin QFP, 100-Leads, Body 14x14mm, Pitch 0.5mm, IPC Medium Density)
footprint TQFP100_L (Thin QFP, 100-Leads, Body 14x14mm, Pitch 0.5mm, IPC High Density)
footprint TQFP100_M (Thin QFP, 100-Leads, Body 14x14mm, Pitch 0.5mm, IPC Low Density)
3D model EPM240-TQFP100 (100-Pin Plastic Thin Quad Flat Pack (TQFP100) - Wire Bond)
part A pins: 2 IO (io), 3 IO (io), 4 IO (io), 5 IO (io), 6 IO (io), 7 IO (io), 8 IO (io), 12 IO/GCLK0 (io), 14 IO/GCLK1 (io), 15 IO (io), 16 IO (io), 17 IO (io), 18 IO (io), 19 IO (io), 20 IO (io), 21 IO (io), 26 IO (io), 27 IO (io), 28 IO (io), 29 IO (io), 30 IO (io), 33 IO (io), 34 IO (io), 35 IO (io), 36 IO (io), 37 IO (io), 38 IO (io), 39 IO (io), 40 IO (io), 41 IO (io), 42 IO (io), 43 IO/DEV_OE (io), 44 IO/DEV_CLRn (io), 47 IO (io), 48 IO (io), 49 IO (io), 50 IO (io), 51 IO (io)
part B pins: 1 IO (io), 52 IO (io), 53 IO (io), 54 IO (io), 55 IO (io), 56 IO (io), 57 IO (io), 58 IO (io), 61 IO (io), 62 IO/GCLK2 (io), 64 IO/GCLK3 (io), 66 IO (io), 67 IO (io), 68 IO (io), 69 IO (io), 70 IO (io), 71 IO (io), 72 IO (io), 73 IO (io), 74 IO (io), 75 IO (io), 76 IO (io), 77 IO (io), 78 IO (io), 81 IO (io), 82 IO (io), 83 IO (io), 84 IO (io), 85 IO (io), 86 IO (io), 87 IO (io), 88 IO (io), 89 IO (io), 90 IO (io), 91 IO (io), 92 IO (io), 95 IO (io), 96 IO (io), 97 IO (io), 98 IO (io), 99 IO (io), 100 IO (io)
part C pins: 22 TMS (in), 23 TDI (in), 24 TCK (in), 25 TDO (out)
part D pins: 9 VCCIO1 (power), 13 VCCINT (power), 31 VCCIO1 (power), 45 VCCIO1 (power), 59 VCCIO2 (power), 63 VCCINT (power), 80 VCCIO2 (power), 94 VCCIO2 (power)
part E pins: 10 GNDIO (power), 11 GNDINT (power), 32 GNDIO (power), 46 GNDIO (power), 60 GNDIO (power), 65 GNDINT (power), 79 GNDIO (power), 93 GNDIO (power)
part A text: BANK 1
part B text: BANK 2

## EPM240GT100C5N
designator U?
MAX II 1.8V CPLD, 80 IOs, 240 Logic Elements, 100-Pin Plastic TQFP, Commercial Temperature, Speed Grade 5, Pb-Free; Note: Each set of VCCIO pins can be connected to 3.3V, 2.5V, 1.8V, or 1.5V.; Note: All VCCINT pins must be connected to 1.8V.; Published: 4-Mar-2005; LatestRevisionDate: 13-Apr-2006; LatestRevisionNote: IPC-7351 Footprint Added.; DatasheetVersion: ver1.8, Jul-2006; PackageVersion: ver15.1, May-2008; PackageReference: TQFP100; Publisher: Altium Limited; PackageDescription: 100-Pin Plastic Thin Quad Flat Pack (TQFP100) - Wire Bond; Supplier 1: Digi-Key; Supplier Part Number 1: 544-1397-ND; Code_JEDEC: MS-026-AED; ComponentLink1Description: Manufacturer Link; ComponentLink1URL: http://www.altera.com/products/devices/cpld/max2/mx2-index.jsp; ComponentLink2Description: Handbook; ComponentLink2URL: http://www.altera.com/literature/hb/max2/max2_mii5v1.pdf; ComponentLink3Description: Packaging Specification; ComponentLink3URL: http://www.altera.com/literature/ds/dspkg.pdf
footprint TQFP100_N (Thin QFP, 100-Leads, Body 14x14mm, Pitch 0.5mm, IPC Medium Density)
footprint TQFP100_L (Thin QFP, 100-Leads, Body 14x14mm, Pitch 0.5mm, IPC High Density)
footprint TQFP100_M (Thin QFP, 100-Leads, Body 14x14mm, Pitch 0.5mm, IPC Low Density)
3D model EPM240-TQFP100 (100-Pin Plastic Thin Quad Flat Pack (TQFP100) - Wire Bond)
part A pins: 2 IO (io), 3 IO (io), 4 IO (io), 5 IO (io), 6 IO (io), 7 IO (io), 8 IO (io), 12 IO/GCLK0 (io), 14 IO/GCLK1 (io), 15 IO (io), 16 IO (io), 17 IO (io), 18 IO (io), 19 IO (io), 20 IO (io), 21 IO (io), 26 IO (io), 27 IO (io), 28 IO (io), 29 IO (io), 30 IO (io), 33 IO (io), 34 IO (io), 35 IO (io), 36 IO (io), 37 IO (io), 38 IO (io), 39 IO (io), 40 IO (io), 41 IO (io), 42 IO (io), 43 IO/DEV_OE (io), 44 IO/DEV_CLRn (io), 47 IO (io), 48 IO (io), 49 IO (io), 50 IO (io), 51 IO (io)
part B pins: 1 IO (io), 52 IO (io), 53 IO (io), 54 IO (io), 55 IO (io), 56 IO (io), 57 IO (io), 58 IO (io), 61 IO (io), 62 IO/GCLK2 (io), 64 IO/GCLK3 (io), 66 IO (io), 67 IO (io), 68 IO (io), 69 IO (io), 70 IO (io), 71 IO (io), 72 IO (io), 73 IO (io), 74 IO (io), 75 IO (io), 76 IO (io), 77 IO (io), 78 IO (io), 81 IO (io), 82 IO (io), 83 IO (io), 84 IO (io), 85 IO (io), 86 IO (io), 87 IO (io), 88 IO (io), 89 IO (io), 90 IO (io), 91 IO (io), 92 IO (io), 95 IO (io), 96 IO (io), 97 IO (io), 98 IO (io), 99 IO (io), 100 IO (io)
part C pins: 22 TMS (in), 23 TDI (in), 24 TCK (in), 25 TDO (out)
part D pins: 9 VCCIO1 (power), 13 VCCINT (power), 31 VCCIO1 (power), 45 VCCIO1 (power), 59 VCCIO2 (power), 63 VCCINT (power), 80 VCCIO2 (power), 94 VCCIO2 (power)
part E pins: 10 GNDIO (power), 11 GNDINT (power), 32 GNDIO (power), 46 GNDIO (power), 60 GNDIO (power), 65 GNDINT (power), 79 GNDIO (power), 93 GNDIO (power)
part A text: BANK 1
part B text: BANK 2

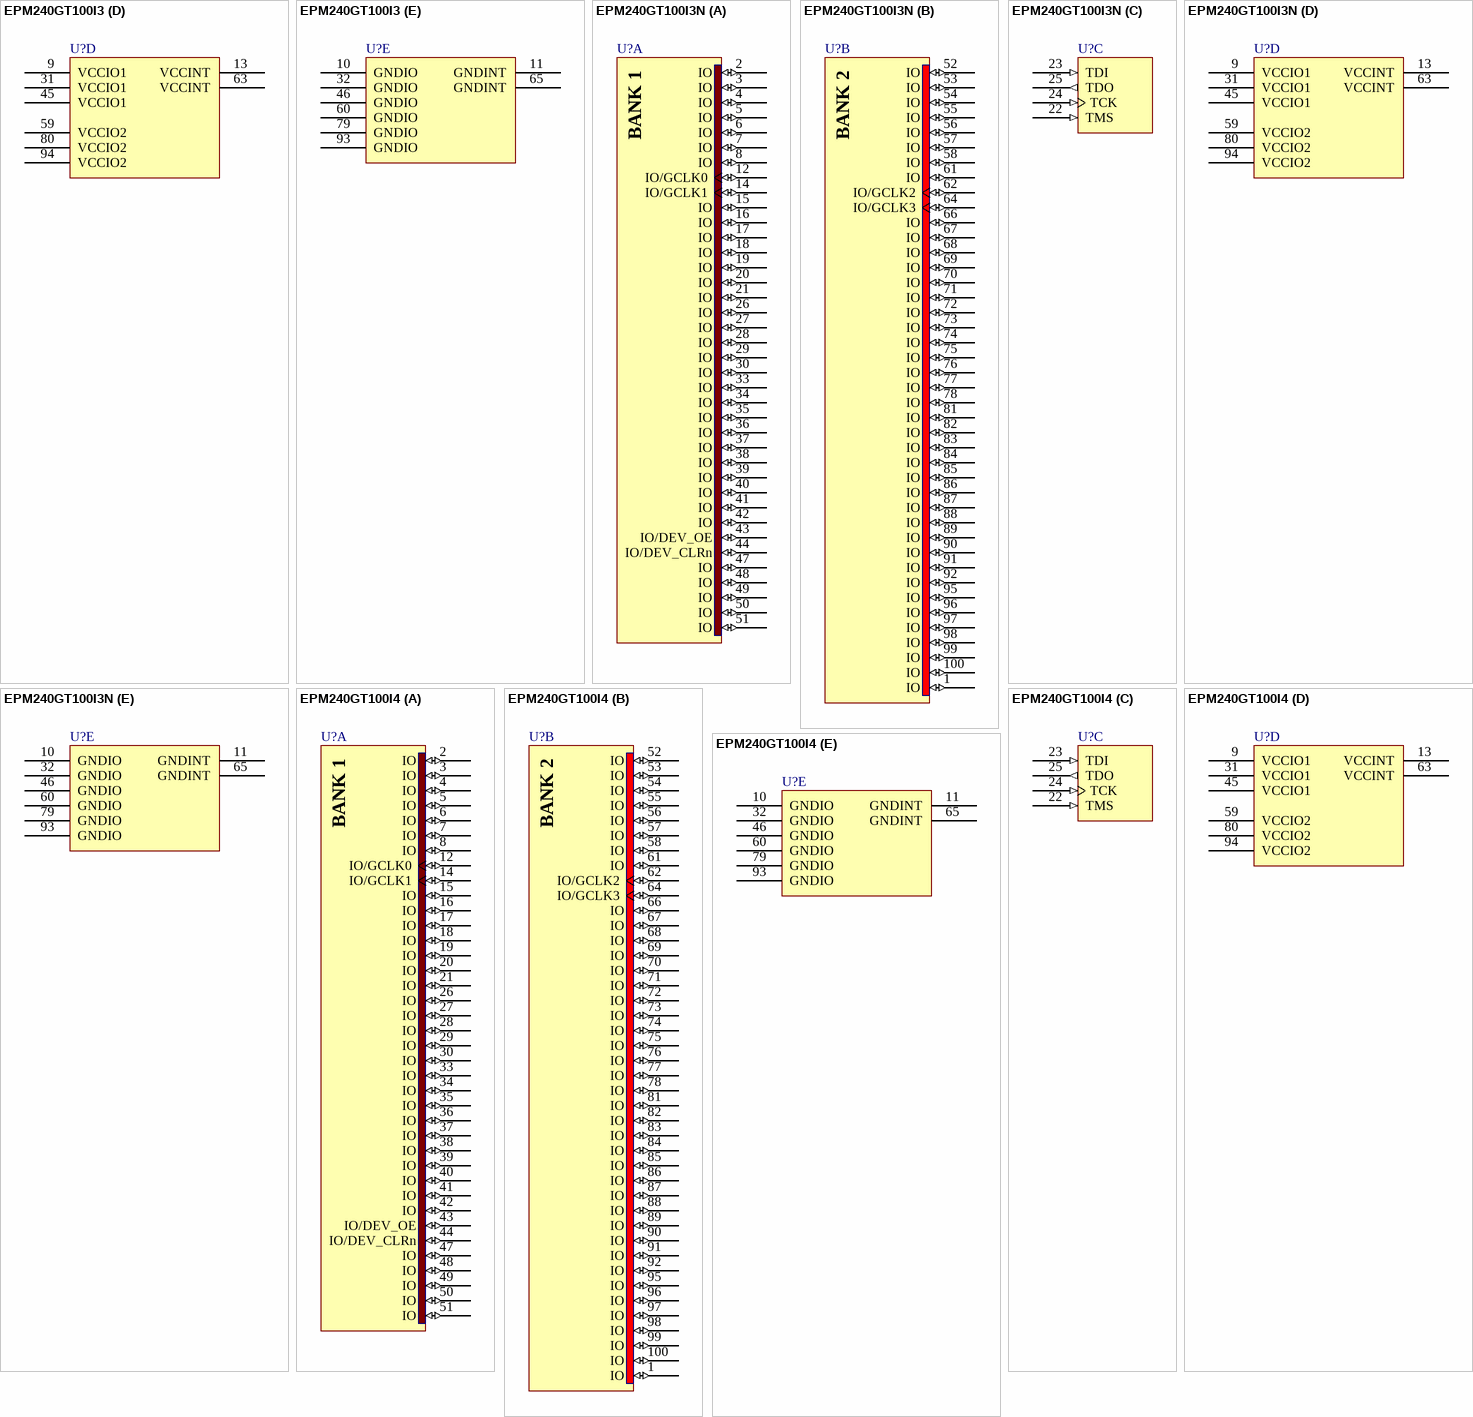
[diagram p5: symbols EPM240GT100I3 to EPM240GT100I4]

## EPM240GT100I3
designator U?
MAX II 1.8V CPLD, 80 IOs, 240 Logic Elements, 100-Pin Plastic TQFP, Industrial Temperature, Speed Grade 3; Note: Each set of VCCIO pins can be connected to 3.3V, 2.5V, 1.8V, or 1.5V.; Note: All VCCINT pins must be connected to 1.8V.; Published: 18-Aug-2005; LatestRevisionDate: 13-Apr-2006; LatestRevisionNote: IPC-7351 Footprint Added.; DatasheetVersion: ver1.8, Jul-2006; PackageVersion: ver15.1, May-2008; PackageReference: TQFP100; Publisher: Altium Limited; PackageDescription: 100-Pin Plastic Thin Quad Flat Pack (TQFP100) - Wire Bond; Code_JEDEC: MS-026-AED; ComponentLink1Description: Manufacturer Link; ComponentLink1URL: http://www.altera.com/products/devices/cpld/max2/mx2-index.jsp; ComponentLink2Description: Handbook; ComponentLink2URL: http://www.altera.com/literature/hb/max2/max2_mii5v1.pdf; ComponentLink3Description: Packaging Specification; ComponentLink3URL: http://www.altera.com/literature/ds/dspkg.pdf
footprint TQFP100_N (Thin QFP, 100-Leads, Body 14x14mm, Pitch 0.5mm, IPC Medium Density)
footprint TQFP100_L (Thin QFP, 100-Leads, Body 14x14mm, Pitch 0.5mm, IPC High Density)
footprint TQFP100_M (Thin QFP, 100-Leads, Body 14x14mm, Pitch 0.5mm, IPC Low Density)
3D model EPM240-TQFP100 (100-Pin Plastic Thin Quad Flat Pack (TQFP100) - Wire Bond)
part A pins: 2 IO (io), 3 IO (io), 4 IO (io), 5 IO (io), 6 IO (io), 7 IO (io), 8 IO (io), 12 IO/GCLK0 (io), 14 IO/GCLK1 (io), 15 IO (io), 16 IO (io), 17 IO (io), 18 IO (io), 19 IO (io), 20 IO (io), 21 IO (io), 26 IO (io), 27 IO (io), 28 IO (io), 29 IO (io), 30 IO (io), 33 IO (io), 34 IO (io), 35 IO (io), 36 IO (io), 37 IO (io), 38 IO (io), 39 IO (io), 40 IO (io), 41 IO (io), 42 IO (io), 43 IO/DEV_OE (io), 44 IO/DEV_CLRn (io), 47 IO (io), 48 IO (io), 49 IO (io), 50 IO (io), 51 IO (io)
part B pins: 1 IO (io), 52 IO (io), 53 IO (io), 54 IO (io), 55 IO (io), 56 IO (io), 57 IO (io), 58 IO (io), 61 IO (io), 62 IO/GCLK2 (io), 64 IO/GCLK3 (io), 66 IO (io), 67 IO (io), 68 IO (io), 69 IO (io), 70 IO (io), 71 IO (io), 72 IO (io), 73 IO (io), 74 IO (io), 75 IO (io), 76 IO (io), 77 IO (io), 78 IO (io), 81 IO (io), 82 IO (io), 83 IO (io), 84 IO (io), 85 IO (io), 86 IO (io), 87 IO (io), 88 IO (io), 89 IO (io), 90 IO (io), 91 IO (io), 92 IO (io), 95 IO (io), 96 IO (io), 97 IO (io), 98 IO (io), 99 IO (io), 100 IO (io)
part C pins: 22 TMS (in), 23 TDI (in), 24 TCK (in), 25 TDO (out)
part D pins: 9 VCCIO1 (power), 13 VCCINT (power), 31 VCCIO1 (power), 45 VCCIO1 (power), 59 VCCIO2 (power), 63 VCCINT (power), 80 VCCIO2 (power), 94 VCCIO2 (power)
part E pins: 10 GNDIO (power), 11 GNDINT (power), 32 GNDIO (power), 46 GNDIO (power), 60 GNDIO (power), 65 GNDINT (power), 79 GNDIO (power), 93 GNDIO (power)
part A text: BANK 1
part B text: BANK 2

## EPM240GT100I3N
designator U?
MAX II 1.8V CPLD, 80 IOs, 240 Logic Elements, 100-Pin Plastic TQFP, Industrial Temperature, Speed Grade 3, Pb-Free; Note: Each set of VCCIO pins can be connected to 3.3V, 2.5V, 1.8V, or 1.5V.; Note: All VCCINT pins must be connected to 1.8V.; Published: 18-Aug-2005; LatestRevisionDate: 13-Apr-2006; LatestRevisionNote: IPC-7351 Footprint Added.; DatasheetVersion: ver1.8, Jul-2006; PackageVersion: ver15.1, May-2008; PackageReference: TQFP100; Publisher: Altium Limited; PackageDescription: 100-Pin Plastic Thin Quad Flat Pack (TQFP100) - Wire Bond; Code_JEDEC: MS-026-AED; ComponentLink1Description: Manufacturer Link; ComponentLink1URL: http://www.altera.com/products/devices/cpld/max2/mx2-index.jsp; ComponentLink2Description: Handbook; ComponentLink2URL: http://www.altera.com/literature/hb/max2/max2_mii5v1.pdf; ComponentLink3Description: Packaging Specification; ComponentLink3URL: http://www.altera.com/literature/ds/dspkg.pdf
footprint TQFP100_N (Thin QFP, 100-Leads, Body 14x14mm, Pitch 0.5mm, IPC Medium Density)
footprint TQFP100_L (Thin QFP, 100-Leads, Body 14x14mm, Pitch 0.5mm, IPC High Density)
footprint TQFP100_M (Thin QFP, 100-Leads, Body 14x14mm, Pitch 0.5mm, IPC Low Density)
3D model EPM240-TQFP100 (100-Pin Plastic Thin Quad Flat Pack (TQFP100) - Wire Bond)
part A pins: 2 IO (io), 3 IO (io), 4 IO (io), 5 IO (io), 6 IO (io), 7 IO (io), 8 IO (io), 12 IO/GCLK0 (io), 14 IO/GCLK1 (io), 15 IO (io), 16 IO (io), 17 IO (io), 18 IO (io), 19 IO (io), 20 IO (io), 21 IO (io), 26 IO (io), 27 IO (io), 28 IO (io), 29 IO (io), 30 IO (io), 33 IO (io), 34 IO (io), 35 IO (io), 36 IO (io), 37 IO (io), 38 IO (io), 39 IO (io), 40 IO (io), 41 IO (io), 42 IO (io), 43 IO/DEV_OE (io), 44 IO/DEV_CLRn (io), 47 IO (io), 48 IO (io), 49 IO (io), 50 IO (io), 51 IO (io)
part B pins: 1 IO (io), 52 IO (io), 53 IO (io), 54 IO (io), 55 IO (io), 56 IO (io), 57 IO (io), 58 IO (io), 61 IO (io), 62 IO/GCLK2 (io), 64 IO/GCLK3 (io), 66 IO (io), 67 IO (io), 68 IO (io), 69 IO (io), 70 IO (io), 71 IO (io), 72 IO (io), 73 IO (io), 74 IO (io), 75 IO (io), 76 IO (io), 77 IO (io), 78 IO (io), 81 IO (io), 82 IO (io), 83 IO (io), 84 IO (io), 85 IO (io), 86 IO (io), 87 IO (io), 88 IO (io), 89 IO (io), 90 IO (io), 91 IO (io), 92 IO (io), 95 IO (io), 96 IO (io), 97 IO (io), 98 IO (io), 99 IO (io), 100 IO (io)
part C pins: 22 TMS (in), 23 TDI (in), 24 TCK (in), 25 TDO (out)
part D pins: 9 VCCIO1 (power), 13 VCCINT (power), 31 VCCIO1 (power), 45 VCCIO1 (power), 59 VCCIO2 (power), 63 VCCINT (power), 80 VCCIO2 (power), 94 VCCIO2 (power)
part E pins: 10 GNDIO (power), 11 GNDINT (power), 32 GNDIO (power), 46 GNDIO (power), 60 GNDIO (power), 65 GNDINT (power), 79 GNDIO (power), 93 GNDIO (power)
part A text: BANK 1
part B text: BANK 2

## EPM240GT100I4
designator U?
MAX II 1.8V CPLD, 80 IOs, 240 Logic Elements, 100-Pin Plastic TQFP, Industrial Temperature, Speed Grade 4; Note: Each set of VCCIO pins can be connected to 3.3V, 2.5V, 1.8V, or 1.5V.; Note: All VCCINT pins must be connected to 1.8V.; Published: 18-Aug-2005; LatestRevisionDate: 13-Apr-2006; LatestRevisionNote: IPC-7351 Footprint Added.; DatasheetVersion: ver1.8, Jul-2006; PackageVersion: ver15.1, May-2008; PackageReference: TQFP100; Publisher: Altium Limited; PackageDescription: 100-Pin Plastic Thin Quad Flat Pack (TQFP100) - Wire Bond; Code_JEDEC: MS-026-AED; ComponentLink1Description: Manufacturer Link; ComponentLink1URL: http://www.altera.com/products/devices/cpld/max2/mx2-index.jsp; ComponentLink2Description: Handbook; ComponentLink2URL: http://www.altera.com/literature/hb/max2/max2_mii5v1.pdf; ComponentLink3Description: Packaging Specification; ComponentLink3URL: http://www.altera.com/literature/ds/dspkg.pdf
footprint TQFP100_N (Thin QFP, 100-Leads, Body 14x14mm, Pitch 0.5mm, IPC Medium Density)
footprint TQFP100_L (Thin QFP, 100-Leads, Body 14x14mm, Pitch 0.5mm, IPC High Density)
footprint TQFP100_M (Thin QFP, 100-Leads, Body 14x14mm, Pitch 0.5mm, IPC Low Density)
3D model EPM240-TQFP100 (100-Pin Plastic Thin Quad Flat Pack (TQFP100) - Wire Bond)
part A pins: 2 IO (io), 3 IO (io), 4 IO (io), 5 IO (io), 6 IO (io), 7 IO (io), 8 IO (io), 12 IO/GCLK0 (io), 14 IO/GCLK1 (io), 15 IO (io), 16 IO (io), 17 IO (io), 18 IO (io), 19 IO (io), 20 IO (io), 21 IO (io), 26 IO (io), 27 IO (io), 28 IO (io), 29 IO (io), 30 IO (io), 33 IO (io), 34 IO (io), 35 IO (io), 36 IO (io), 37 IO (io), 38 IO (io), 39 IO (io), 40 IO (io), 41 IO (io), 42 IO (io), 43 IO/DEV_OE (io), 44 IO/DEV_CLRn (io), 47 IO (io), 48 IO (io), 49 IO (io), 50 IO (io), 51 IO (io)
part B pins: 1 IO (io), 52 IO (io), 53 IO (io), 54 IO (io), 55 IO (io), 56 IO (io), 57 IO (io), 58 IO (io), 61 IO (io), 62 IO/GCLK2 (io), 64 IO/GCLK3 (io), 66 IO (io), 67 IO (io), 68 IO (io), 69 IO (io), 70 IO (io), 71 IO (io), 72 IO (io), 73 IO (io), 74 IO (io), 75 IO (io), 76 IO (io), 77 IO (io), 78 IO (io), 81 IO (io), 82 IO (io), 83 IO (io), 84 IO (io), 85 IO (io), 86 IO (io), 87 IO (io), 88 IO (io), 89 IO (io), 90 IO (io), 91 IO (io), 92 IO (io), 95 IO (io), 96 IO (io), 97 IO (io), 98 IO (io), 99 IO (io), 100 IO (io)
part C pins: 22 TMS (in), 23 TDI (in), 24 TCK (in), 25 TDO (out)
part D pins: 9 VCCIO1 (power), 13 VCCINT (power), 31 VCCIO1 (power), 45 VCCIO1 (power), 59 VCCIO2 (power), 63 VCCINT (power), 80 VCCIO2 (power), 94 VCCIO2 (power)
part E pins: 10 GNDIO (power), 11 GNDINT (power), 32 GNDIO (power), 46 GNDIO (power), 60 GNDIO (power), 65 GNDINT (power), 79 GNDIO (power), 93 GNDIO (power)
part A text: BANK 1
part B text: BANK 2

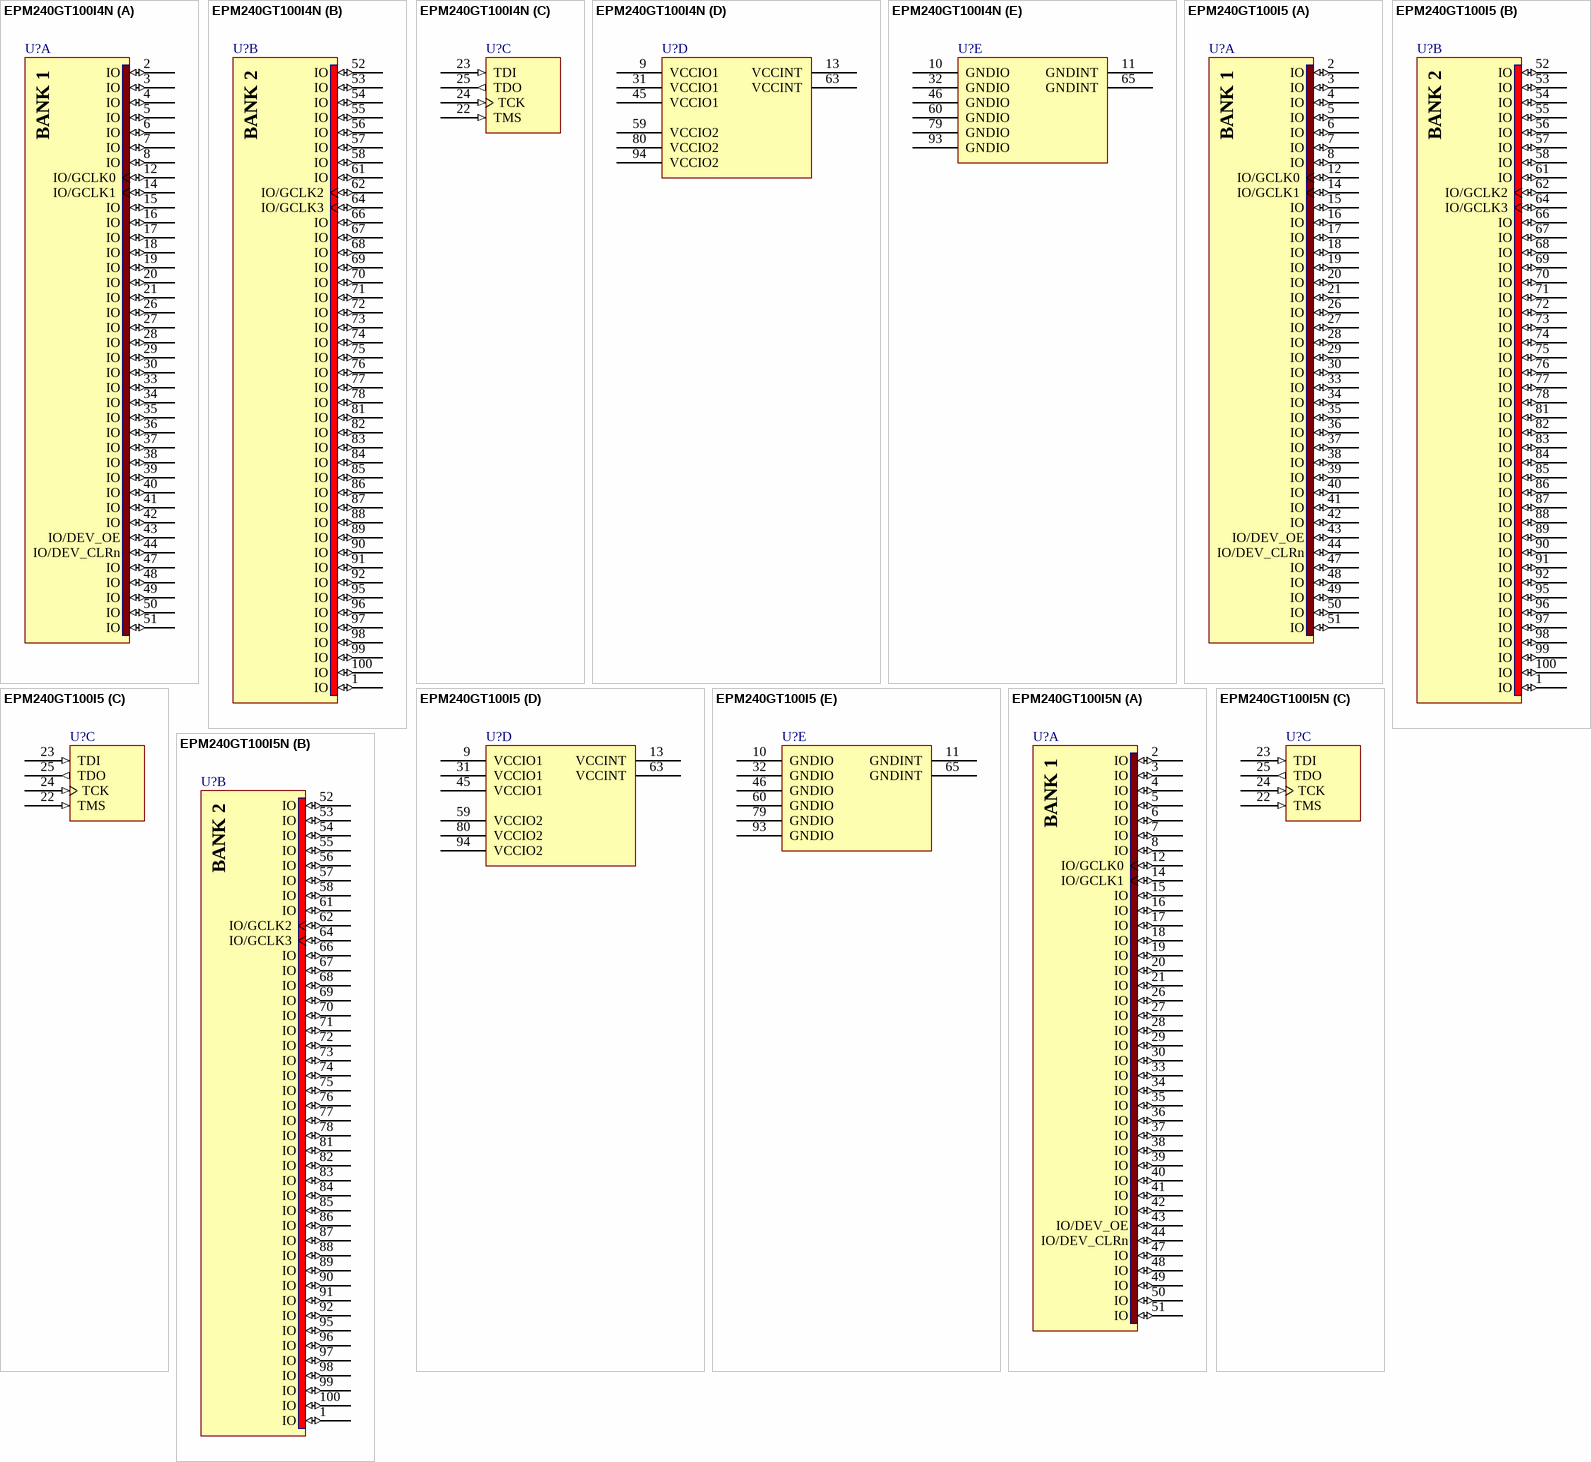
[diagram p6: symbols EPM240GT100I4N to EPM240GT100I5N]

## EPM240GT100I4N
designator U?
MAX II 1.8V CPLD, 80 IOs, 240 Logic Elements, 100-Pin Plastic TQFP, Industrial Temperature, Speed Grade 4, Pb-Free; Note: Each set of VCCIO pins can be connected to 3.3V, 2.5V, 1.8V, or 1.5V.; Note: All VCCINT pins must be connected to 1.8V.; Published: 18-Aug-2005; LatestRevisionDate: 13-Apr-2006; LatestRevisionNote: IPC-7351 Footprint Added.; DatasheetVersion: ver1.8, Jul-2006; PackageVersion: ver15.1, May-2008; PackageReference: TQFP100; Publisher: Altium Limited; PackageDescription: 100-Pin Plastic Thin Quad Flat Pack (TQFP100) - Wire Bond; Code_JEDEC: MS-026-AED; ComponentLink1Description: Manufacturer Link; ComponentLink1URL: http://www.altera.com/products/devices/cpld/max2/mx2-index.jsp; ComponentLink2Description: Handbook; ComponentLink2URL: http://www.altera.com/literature/hb/max2/max2_mii5v1.pdf; ComponentLink3Description: Packaging Specification; ComponentLink3URL: http://www.altera.com/literature/ds/dspkg.pdf
footprint TQFP100_N (Thin QFP, 100-Leads, Body 14x14mm, Pitch 0.5mm, IPC Medium Density)
footprint TQFP100_L (Thin QFP, 100-Leads, Body 14x14mm, Pitch 0.5mm, IPC High Density)
footprint TQFP100_M (Thin QFP, 100-Leads, Body 14x14mm, Pitch 0.5mm, IPC Low Density)
3D model EPM240-TQFP100 (100-Pin Plastic Thin Quad Flat Pack (TQFP100) - Wire Bond)
part A pins: 2 IO (io), 3 IO (io), 4 IO (io), 5 IO (io), 6 IO (io), 7 IO (io), 8 IO (io), 12 IO/GCLK0 (io), 14 IO/GCLK1 (io), 15 IO (io), 16 IO (io), 17 IO (io), 18 IO (io), 19 IO (io), 20 IO (io), 21 IO (io), 26 IO (io), 27 IO (io), 28 IO (io), 29 IO (io), 30 IO (io), 33 IO (io), 34 IO (io), 35 IO (io), 36 IO (io), 37 IO (io), 38 IO (io), 39 IO (io), 40 IO (io), 41 IO (io), 42 IO (io), 43 IO/DEV_OE (io), 44 IO/DEV_CLRn (io), 47 IO (io), 48 IO (io), 49 IO (io), 50 IO (io), 51 IO (io)
part B pins: 1 IO (io), 52 IO (io), 53 IO (io), 54 IO (io), 55 IO (io), 56 IO (io), 57 IO (io), 58 IO (io), 61 IO (io), 62 IO/GCLK2 (io), 64 IO/GCLK3 (io), 66 IO (io), 67 IO (io), 68 IO (io), 69 IO (io), 70 IO (io), 71 IO (io), 72 IO (io), 73 IO (io), 74 IO (io), 75 IO (io), 76 IO (io), 77 IO (io), 78 IO (io), 81 IO (io), 82 IO (io), 83 IO (io), 84 IO (io), 85 IO (io), 86 IO (io), 87 IO (io), 88 IO (io), 89 IO (io), 90 IO (io), 91 IO (io), 92 IO (io), 95 IO (io), 96 IO (io), 97 IO (io), 98 IO (io), 99 IO (io), 100 IO (io)
part C pins: 22 TMS (in), 23 TDI (in), 24 TCK (in), 25 TDO (out)
part D pins: 9 VCCIO1 (power), 13 VCCINT (power), 31 VCCIO1 (power), 45 VCCIO1 (power), 59 VCCIO2 (power), 63 VCCINT (power), 80 VCCIO2 (power), 94 VCCIO2 (power)
part E pins: 10 GNDIO (power), 11 GNDINT (power), 32 GNDIO (power), 46 GNDIO (power), 60 GNDIO (power), 65 GNDINT (power), 79 GNDIO (power), 93 GNDIO (power)
part A text: BANK 1
part B text: BANK 2

## EPM240GT100I5
designator U?
MAX II 1.8V CPLD, 80 IOs, 240 Logic Elements, 100-Pin Plastic TQFP, Industrial Temperature, Speed Grade 5; Note: Each set of VCCIO pins can be connected to 3.3V, 2.5V, 1.8V, or 1.5V.; Note: All VCCINT pins must be connected to 1.8V.; Published: 18-Aug-2005; LatestRevisionDate: 13-Apr-2006; LatestRevisionNote: IPC-7351 Footprint Added.; DatasheetVersion: ver1.8, Jul-2006; PackageVersion: ver15.1, May-2008; PackageReference: TQFP100; Publisher: Altium Limited; PackageDescription: 100-Pin Plastic Thin Quad Flat Pack (TQFP100) - Wire Bond; Supplier 1: Digi-Key; Supplier Part Number 1: 544-2274-ND; Code_JEDEC: MS-026-AED; ComponentLink1Description: Manufacturer Link; ComponentLink1URL: http://www.altera.com/products/devices/cpld/max2/mx2-index.jsp; ComponentLink2Description: Handbook; ComponentLink2URL: http://www.altera.com/literature/hb/max2/max2_mii5v1.pdf; ComponentLink3Description: Packaging Specification; ComponentLink3URL: http://www.altera.com/literature/ds/dspkg.pdf
footprint TQFP100_N (Thin QFP, 100-Leads, Body 14x14mm, Pitch 0.5mm, IPC Medium Density)
footprint TQFP100_L (Thin QFP, 100-Leads, Body 14x14mm, Pitch 0.5mm, IPC High Density)
footprint TQFP100_M (Thin QFP, 100-Leads, Body 14x14mm, Pitch 0.5mm, IPC Low Density)
3D model EPM240-TQFP100 (100-Pin Plastic Thin Quad Flat Pack (TQFP100) - Wire Bond)
part A pins: 2 IO (io), 3 IO (io), 4 IO (io), 5 IO (io), 6 IO (io), 7 IO (io), 8 IO (io), 12 IO/GCLK0 (io), 14 IO/GCLK1 (io), 15 IO (io), 16 IO (io), 17 IO (io), 18 IO (io), 19 IO (io), 20 IO (io), 21 IO (io), 26 IO (io), 27 IO (io), 28 IO (io), 29 IO (io), 30 IO (io), 33 IO (io), 34 IO (io), 35 IO (io), 36 IO (io), 37 IO (io), 38 IO (io), 39 IO (io), 40 IO (io), 41 IO (io), 42 IO (io), 43 IO/DEV_OE (io), 44 IO/DEV_CLRn (io), 47 IO (io), 48 IO (io), 49 IO (io), 50 IO (io), 51 IO (io)
part B pins: 1 IO (io), 52 IO (io), 53 IO (io), 54 IO (io), 55 IO (io), 56 IO (io), 57 IO (io), 58 IO (io), 61 IO (io), 62 IO/GCLK2 (io), 64 IO/GCLK3 (io), 66 IO (io), 67 IO (io), 68 IO (io), 69 IO (io), 70 IO (io), 71 IO (io), 72 IO (io), 73 IO (io), 74 IO (io), 75 IO (io), 76 IO (io), 77 IO (io), 78 IO (io), 81 IO (io), 82 IO (io), 83 IO (io), 84 IO (io), 85 IO (io), 86 IO (io), 87 IO (io), 88 IO (io), 89 IO (io), 90 IO (io), 91 IO (io), 92 IO (io), 95 IO (io), 96 IO (io), 97 IO (io), 98 IO (io), 99 IO (io), 100 IO (io)
part C pins: 22 TMS (in), 23 TDI (in), 24 TCK (in), 25 TDO (out)
part D pins: 9 VCCIO1 (power), 13 VCCINT (power), 31 VCCIO1 (power), 45 VCCIO1 (power), 59 VCCIO2 (power), 63 VCCINT (power), 80 VCCIO2 (power), 94 VCCIO2 (power)
part E pins: 10 GNDIO (power), 11 GNDINT (power), 32 GNDIO (power), 46 GNDIO (power), 60 GNDIO (power), 65 GNDINT (power), 79 GNDIO (power), 93 GNDIO (power)
part A text: BANK 1
part B text: BANK 2

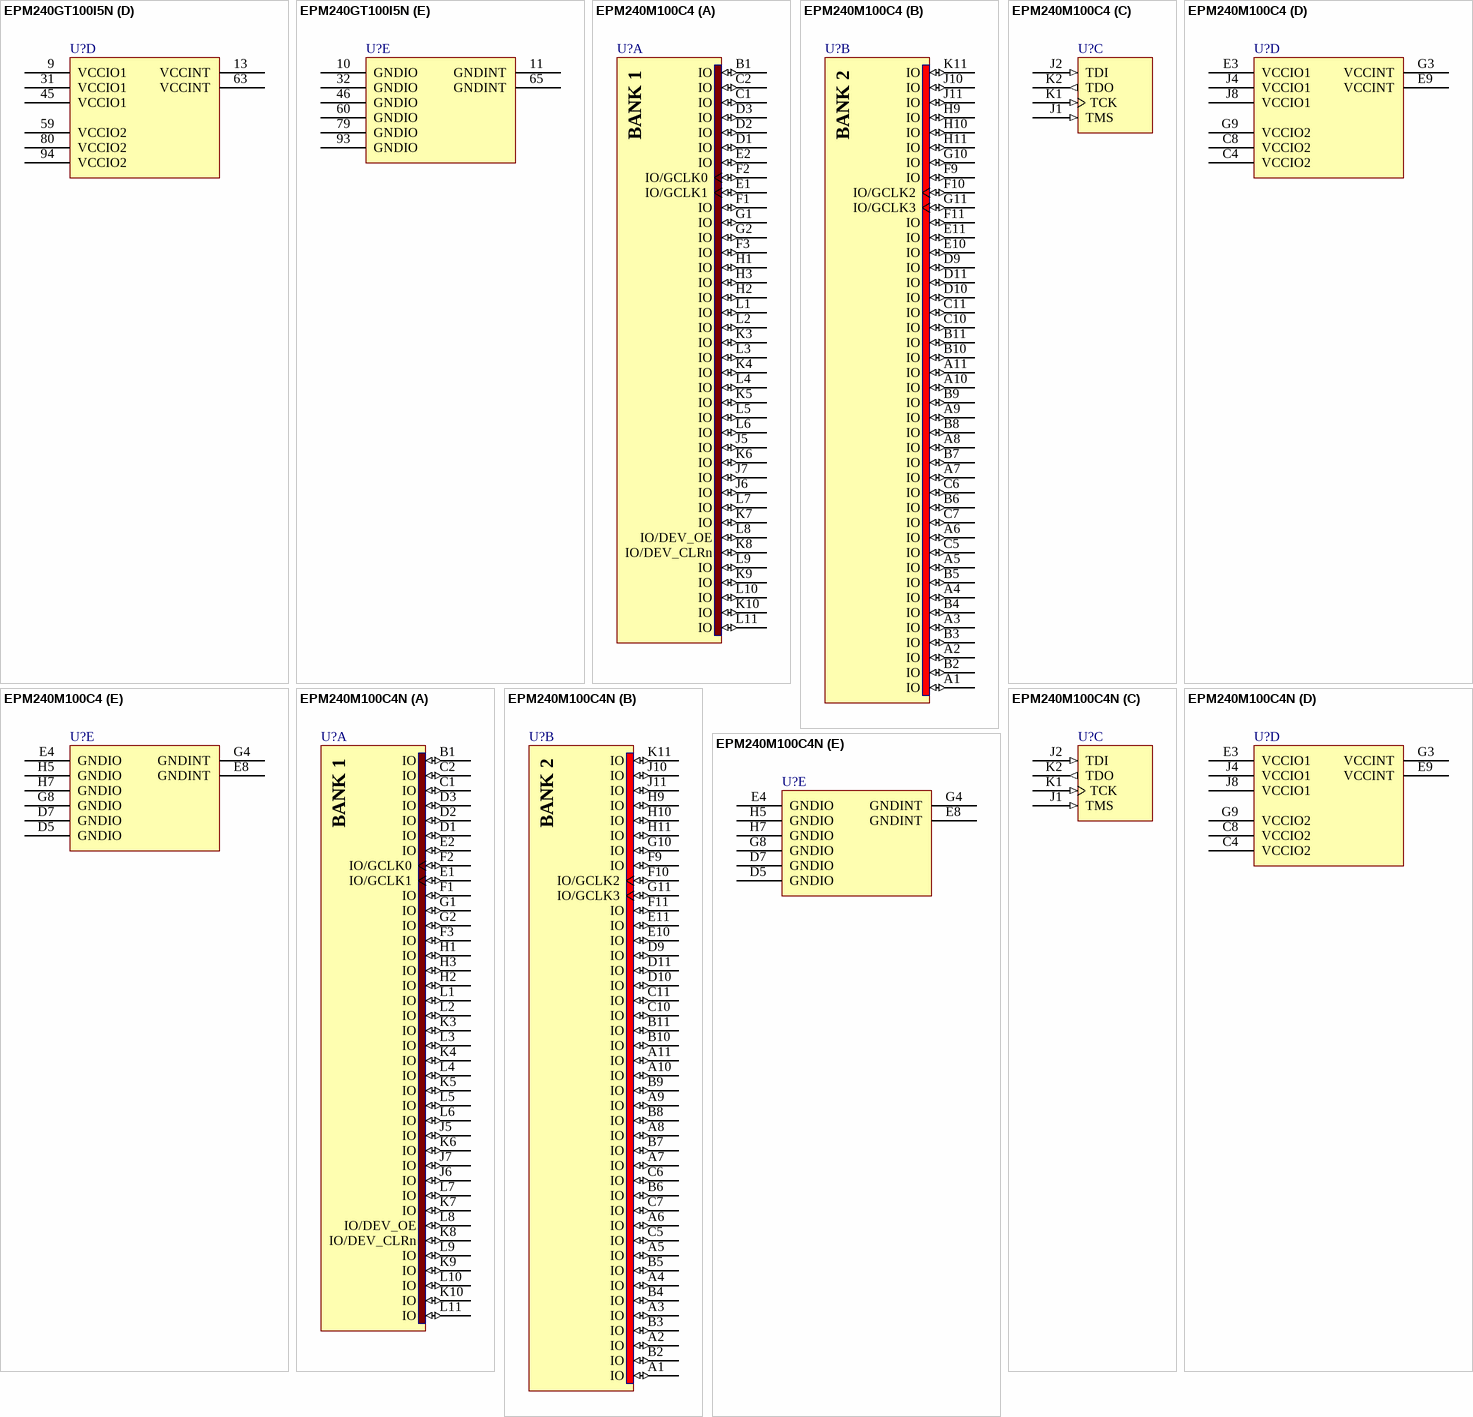
[diagram p7: symbols EPM240GT100I5N to EPM240M100C4N]

## EPM240GT100I5N
designator U?
MAX II 1.8V CPLD, 80 IOs, 240 Logic Elements, 100-Pin Plastic TQFP, Industrial Temperature, Speed Grade 5, Pb-Free; Note: Each set of VCCIO pins can be connected to 3.3V, 2.5V, 1.8V, or 1.5V.; Note: All VCCINT pins must be connected to 1.8V.; Published: 18-Aug-2005; LatestRevisionDate: 13-Apr-2006; LatestRevisionNote: IPC-7351 Footprint Added.; DatasheetVersion: ver1.8, Jul-2006; PackageVersion: ver15.1, May-2008; PackageReference: TQFP100; Publisher: Altium Limited; PackageDescription: 100-Pin Plastic Thin Quad Flat Pack (TQFP100) - Wire Bond; Supplier 1: Digi-Key; Supplier Part Number 1: 544-2275-ND; Code_JEDEC: MS-026-AED; ComponentLink1Description: Manufacturer Link; ComponentLink1URL: http://www.altera.com/products/devices/cpld/max2/mx2-index.jsp; ComponentLink2Description: Handbook; ComponentLink2URL: http://www.altera.com/literature/hb/max2/max2_mii5v1.pdf; ComponentLink3Description: Packaging Specification; ComponentLink3URL: http://www.altera.com/literature/ds/dspkg.pdf
footprint TQFP100_N (Thin QFP, 100-Leads, Body 14x14mm, Pitch 0.5mm, IPC Medium Density)
footprint TQFP100_L (Thin QFP, 100-Leads, Body 14x14mm, Pitch 0.5mm, IPC High Density)
footprint TQFP100_M (Thin QFP, 100-Leads, Body 14x14mm, Pitch 0.5mm, IPC Low Density)
3D model EPM240-TQFP100 (100-Pin Plastic Thin Quad Flat Pack (TQFP100) - Wire Bond)
part A pins: 2 IO (io), 3 IO (io), 4 IO (io), 5 IO (io), 6 IO (io), 7 IO (io), 8 IO (io), 12 IO/GCLK0 (io), 14 IO/GCLK1 (io), 15 IO (io), 16 IO (io), 17 IO (io), 18 IO (io), 19 IO (io), 20 IO (io), 21 IO (io), 26 IO (io), 27 IO (io), 28 IO (io), 29 IO (io), 30 IO (io), 33 IO (io), 34 IO (io), 35 IO (io), 36 IO (io), 37 IO (io), 38 IO (io), 39 IO (io), 40 IO (io), 41 IO (io), 42 IO (io), 43 IO/DEV_OE (io), 44 IO/DEV_CLRn (io), 47 IO (io), 48 IO (io), 49 IO (io), 50 IO (io), 51 IO (io)
part B pins: 1 IO (io), 52 IO (io), 53 IO (io), 54 IO (io), 55 IO (io), 56 IO (io), 57 IO (io), 58 IO (io), 61 IO (io), 62 IO/GCLK2 (io), 64 IO/GCLK3 (io), 66 IO (io), 67 IO (io), 68 IO (io), 69 IO (io), 70 IO (io), 71 IO (io), 72 IO (io), 73 IO (io), 74 IO (io), 75 IO (io), 76 IO (io), 77 IO (io), 78 IO (io), 81 IO (io), 82 IO (io), 83 IO (io), 84 IO (io), 85 IO (io), 86 IO (io), 87 IO (io), 88 IO (io), 89 IO (io), 90 IO (io), 91 IO (io), 92 IO (io), 95 IO (io), 96 IO (io), 97 IO (io), 98 IO (io), 99 IO (io), 100 IO (io)
part C pins: 22 TMS (in), 23 TDI (in), 24 TCK (in), 25 TDO (out)
part D pins: 9 VCCIO1 (power), 13 VCCINT (power), 31 VCCIO1 (power), 45 VCCIO1 (power), 59 VCCIO2 (power), 63 VCCINT (power), 80 VCCIO2 (power), 94 VCCIO2 (power)
part E pins: 10 GNDIO (power), 11 GNDINT (power), 32 GNDIO (power), 46 GNDIO (power), 60 GNDIO (power), 65 GNDINT (power), 79 GNDIO (power), 93 GNDIO (power)
part A text: BANK 1
part B text: BANK 2